# Altium schematic symbol library NOUMANPCBLIB.SchLib: 638 symbols (part 3 of 6)
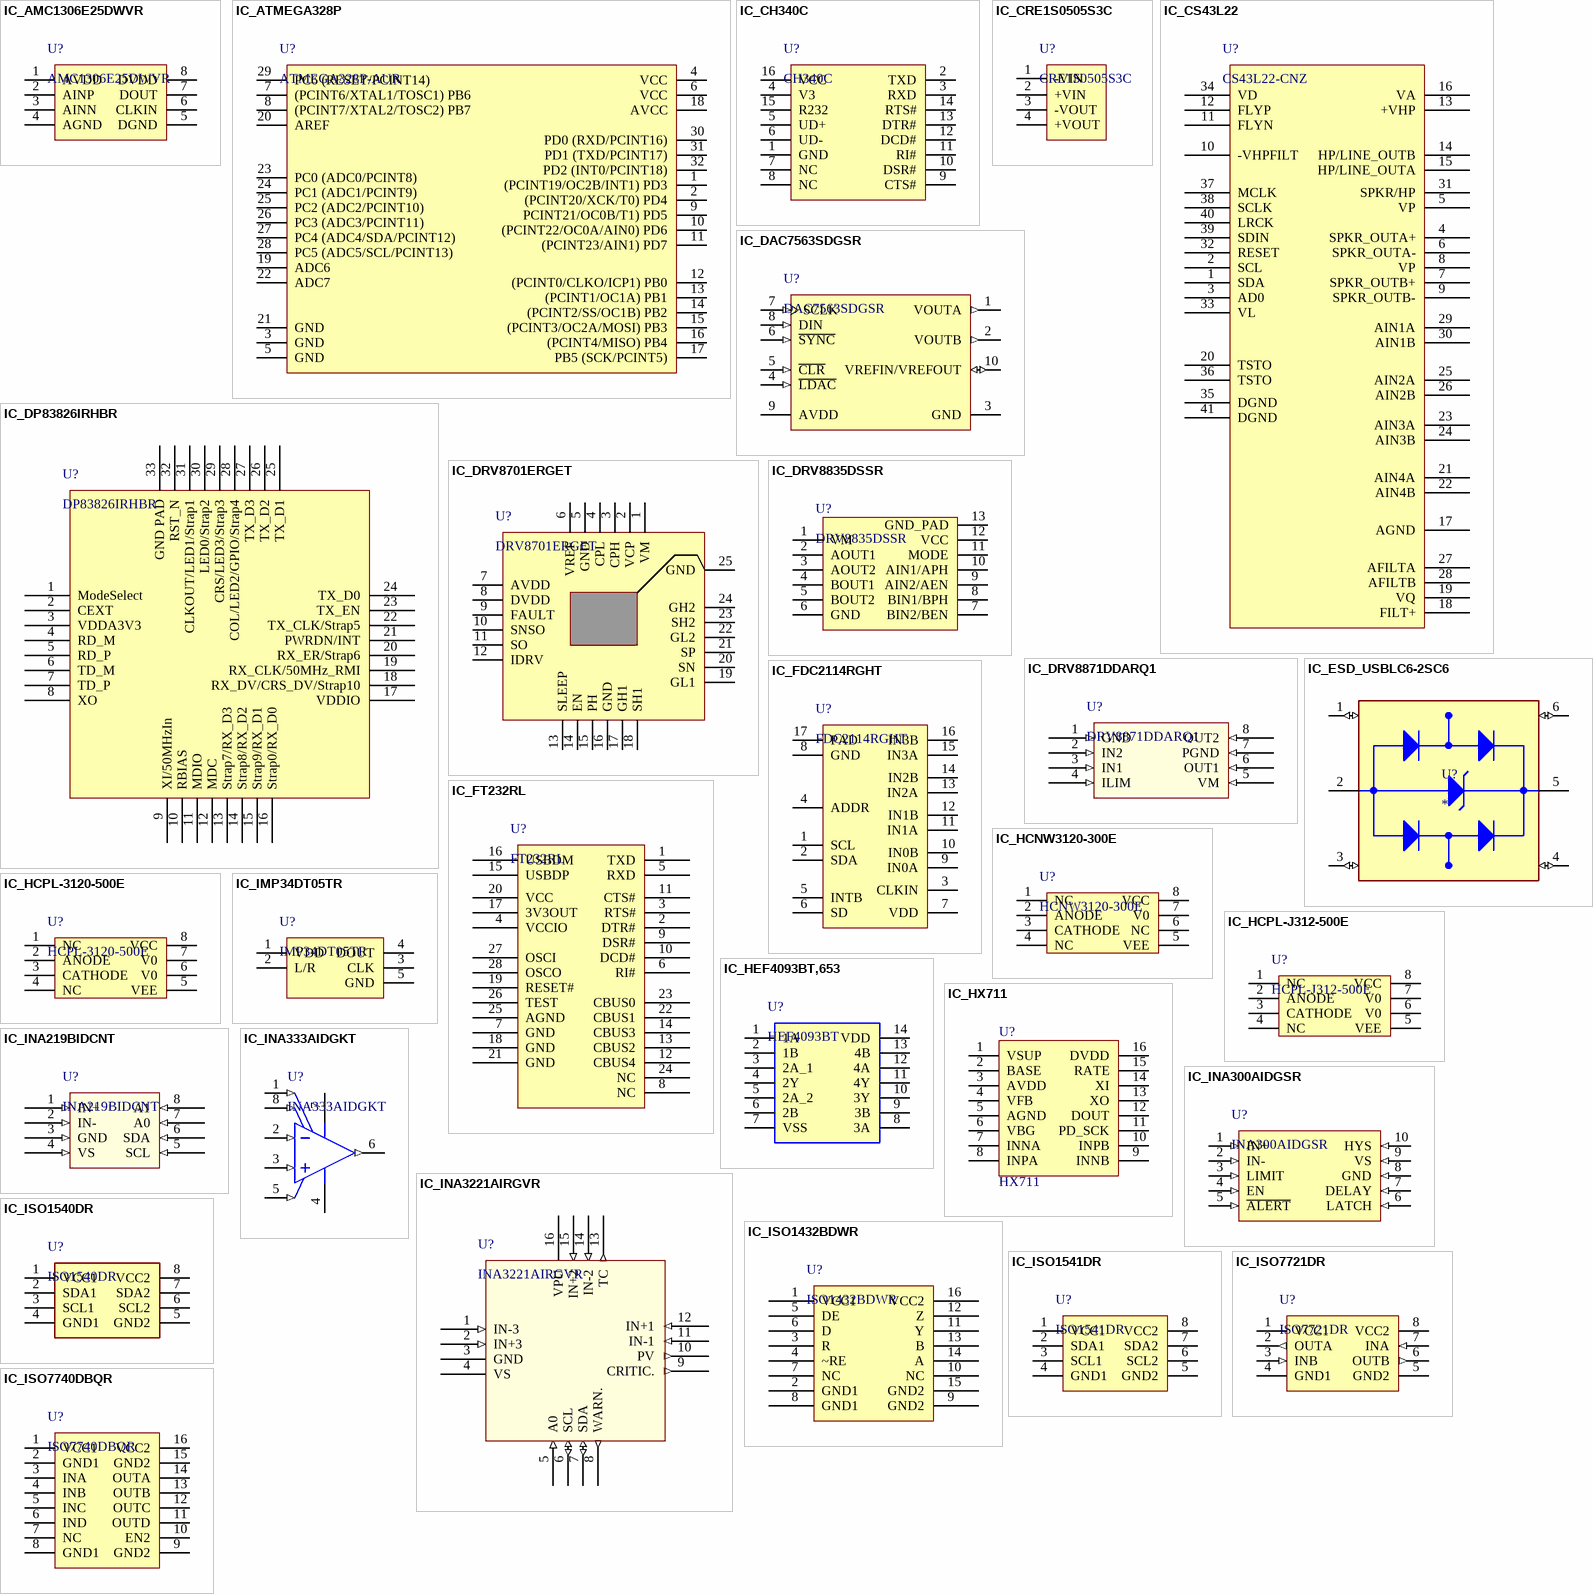
[diagram p20: symbols IC_AMC1306E25DWVR to IC_ISO7740DBQR]

## IC_CH340C
designator U?, comment CH340C
USB Bridge, USB to UART USB 2.0 UART Interface; Manufacturer: Olimex; Alternate Part Number-1: NA; Manufacturer Part Number: CH340C; Case/Package: SOIC16; Supplier-1: LCSC; Supplier Part Number-1: C84681
footprint SOIC16_50_284_25X90_SMT
pins: 1 GND, 2 TXD, 3 RXD, 4 V3, 5 UD+, 6 UD-, 7 NC, 8 NC, 9 CTS#, 10 DSR#, 11 RI#, 12 DCD#, 13 DTR#, 14 RTS#, 15 R232, 16 VCC

## IC_CRE1S0505S3C
designator U?, comment CRE1S0505S3C
Isolated Module DC DC Converter 1 Output 5V 200mA 4.5V - 5.5V Input; Manufacturer: Murata; Alternate Part Number-1: NA; Manufacturer Part Number: CRE1S0505S3C; Case/Package: SC-Package; Supplier-1: RS Components; Supplier Part Number-1: CRE1S0505S3C
footprint MOD_SC-PACKAGE_100_240_78X47_TH (SC PACK)
pins: 1 -VIN, 2 +VIN, 3 -VOUT, 4 +VOUT

## IC_CS43L22
designator U?, comment CS43L22-CNZ
Audio D/A Converter ICs Low Power Stereo DAC w/ClassD Spkr Driver; Manufacturer: Cirrus Logic; Alternate Part Number-1: NA; Manufacturer Part Number: CS43L22-CNZ; Case/Package: QFN-40; Supplier-1: Mouser; Supplier Part Number-1: 777-CS43L22-CNZ
footprint QFN40_19_284_33X9_SMD
pins: 1 SDA, 2 SCL, 3 AD0, 4 SPKR_OUTA+, 5 VP, 6 SPKR_OUTA-, 7 SPKR_OUTB+, 8 VP, 9 SPKR_OUTB-, 10 -VHPFILT, 11 FLYN, 12 FLYP, 13 +VHP, 14 HP/LINE_OUTB, 15 HP/LINE_OUTA, 16 VA, 17 AGND, 18 FILT+, 19 VQ, 20 TSTO, 21 AIN4A, 22 AIN4B, 23 AIN3A, 24 AIN3B, 25 AIN2A, 26 AIN2B, 27 AFILTA, 28 AFILTB, 29 AIN1A, 30 AIN1B, 31 SPKR/HP, 32 RESET, 33 VL, 34 VD, 35 DGND, 36 TSTO, 37 MCLK, 38 SCLK, 39 SDIN, 40 LRCK, 41 DGND

## IC_DAC7563SDGSR
designator U?, comment DAC7563SDGSR
12-Bit, Dual, Low Power, Ultra-Low Glitch, Buffered Voltage Output DAC with 2.5 V, 4 ppm/degC Reference, -40 to 125 degC, 10-pin SOP (DGS10), Green (RoHS & no Sb/Br); Manufacturer: Texas Instruments; Settling Time(us): 7; SubFamily: Precision DAC (=<10MSPS); DNL(Max)(+/-LSB): 0.25; DAC Channels: 2; INL(Max)(+/-LSB): 0.75; Power Consumption(Typ)(mW): 0.54; Resolution(Bits): 12; Interface: Serial SPI; Eco-Plan: Green (RoHS & no Sb/Br); PartNumber: DAC7563SDGSR; ComponentLink1Description: Manufacturer URL; ComponentLink2Description: Datasheet; DatasheetVersion: SLAS719D; ComponentLink3URL: http://www.ti.com/lit/ml/mpds035b/mpds035b.pdf; ComponentLink1URL: http://www.ti.com/; Code_JEDEC: MO-153; ComponentLink2URL: http://www.ti.com/general/docs/lit/getliterature.tsp?genericPartNumber=DAC7563&fileType=pdf; PackageReference: DGS10; ComponentLink3Description: Package Specification; PackageVersion: 4073272/C, 02/2004; Mounting Technology: Surface Mount; PackageDescription: 10-Pin Plastic Small Outline, Body 3 x 3 mm, Pitch 0.5 mm
footprint TI-DGS10_L (SOP, 10-Leads, Body 3x3mm, Pitch 0.5mm, IPC High Density)
pins: 1 VOUTA (out) "Analog output voltage from DAC-A", 2 VOUTB (out) "Analog output voltage from DAC-B", 3 GND (power) "Ground reference point for all circuitry on the device", 4 ~{LDAC} (in) "In synchronous mode, data are updated with the falling edge of the 24th SCLK cycle, which follows a falling edge of S\Y\N\C\. For such synchronous updates, the L\D\A\C\ pin is not required, and it must be connected to GND (See Datasheet)", 5 ~{CLR} (in) "Asynchronous clear input. The C\L\R\ input is falling-edge sensitive. When C\L\R\ is activated, zero scale (DACxx62) or mid-scale (DACxx63) is loaded to all input and DAC registers. This sets the DAC output voltages (See Datasheet)", 6 ~{SYNC} (in) "Level-triggered control input (active-low). This input is the frame synchronization signal for the input data. When S\Y\N\C\ goes low, it enables the input shift register, and data are sampled on subsequent falling clock (See Datasheet)", 7 SCLK (in) "Serial clock input. Data can be transferred at rates up to 50 MHz. Schmitt-trigger logic input", 8 DIN (in) "Serial data input. Data are clocked into the 24-bit input shift register on each falling edge of the serial clock input. Schmitt-trigger logic input", 9 AVDD (power) "Power-supply input, 2.7 V to 5.5 V", 10 VREFIN/VREFOUT (io) "Bidirectional voltage reference pin. If internal reference is used, 2.5-V output."

## IC_DP83826IRHBR
designator U?, comment DP83826IRHBR
Ethernet ICs Low latency 10/100-Mbps PHY, MII interface and enhanced mode with an industrial temperature range 32-VQFN -40 to 85; Manufacturer: Texas Instruments; Alternate Part Number-1: NA; Manufacturer Part Number: DP83826IRHBR; Case/Package: 32-VQFN; Supplier-1: Mouser; Supplier Part Number-1: 595-DP83826IRHBR
footprint VQFN32_19_218_23X9_SMD
pins: 1 ModeSelect, 2 CEXT, 3 VDDA3V3, 4 RD_M, 5 RD_P, 6 TD_M, 7 TD_P, 8 XO, 9 XI/50MHzIn, 10 RBIAS, 11 MDIO, 12 MDC, 13 Strap7/RX_D3, 14 Strap8/RX_D2, 15 Strap9/RX_D1, 16 Strap0/RX_D0, 17 VDDIO, 18 RX_DV/CRS_DV/Strap10, 19 RX_CLK/50MHz_RMI, 20 RX_ER/Strap6, 21 PWRDN/INT, 22 TX_CLK/Strap5, 23 TX_EN, 24 TX_D0, 25 TX_D1, 26 TX_D2, 27 TX_D3, 28 COL/LED2/GPIO/Strap4, 29 CRS/LED3/Strap3, 30 LED0/Strap2, 31 CLKOUT/LED1/Strap1, 32 RST_N, 33 GND PAD

## IC_DRV8701ERGET
designator U?, comment DRV8701ERGET
Motor Driver Power MOSFET Parallel 24-VQFN (4x4); Manufacturer: Texas Instruments; Alternate Part Number-1: NA; Manufacturer Part Number: DRV8701ERGET; Case/Package: VFQFN24; Supplier-1: ARROW; Supplier Part Number-1: DRV8701ERGET
footprint VFQFN24_19.6_196_12X32_SMD_1 (CASE: VQFN24)
pins: 1 VM, 2 VCP, 3 CPH, 4 CPL, 5 GND, 6 VREF, 7 AVDD, 8 DVDD, 9 FAULT, 10 SNSO, 11 SO, 12 IDRV, 13 SLEEP, 14 EN, 15 PH, 16 GND, 17 GH1, 18 SH1, 19 GL1, 20 SN, 21 SP, 22 GL2, 23 SH2, 24 GH2, 25 GND

## IC_DRV8835DSSR
designator U?, comment DRV8835DSSR
Bipolar Motor Driver Power MOSFET Parallel 12-WSON (3x2); Manufacturer: Texas Instruments; Alternate Part Number-1: NA; Manufacturer Part Number: DRV8835DSSR; Case/Package: WSON-12; Supplier-1: ARROW; Supplier Part Number-1: DRV8835DSSR
footprint WSON-12_19.6_125_27X11_SMD (CASE: WSON)
pins: 1 VM, 2 AOUT1, 3 AOUT2, 4 BOUT1, 5 BOUT2, 6 GND, 7 BIN2/BEN, 8 BIN1/BPH, 9 AIN2/AEN, 10 AIN1/APH, 11 MODE, 12 VCC, 13 GND_PAD

## IC_DRV8871DDARQ1
designator U?, comment DRV8871DDARQ1
Unipolar Motor Driver NMOS PWM 8-SO PowerPad; Manufacturer: Texas Instruments; Alternate Part Number-1: NA; Manufacturer Part Number: DRV8871DDARQ1; Case/Package: SOIC-8; Supplier-1: ARROW; Supplier Part Number-1: DRV8871DDARQ1
footprint SOIC8_50_328_25X90_SMT (SOIC)
pins: 1 GND (in), 2 IN2 (in), 3 IN1 (in), 4 ILIM (in), 5 VM (in), 6 OUT1 (in), 7 PGND (in), 8 OUT2 (in)

## IC_ESD_USBLC6-2SC6
designator U?
17V Clamp 5A (8/20Âµs) Ipp Tvs Diode Surface Mount SOT-23-6; MF: STMicroelectronics; MP: USBLC6-2SC6; Value: *; SnapEDA_Link: https://www.snapeda.com/parts/USBLC6-2SC6/STMicroelectronics/view-part/?ref=snap; Check_prices: https://www.snapeda.com/parts/USBLC6-2SC6/STMicroelectronics/view-part/?ref=eda; Purchase-URL: https://pricing.snapeda.com/search/part/USBLC6-2SC6/?ref=eda; Price: None; Availability: In Stock; Package: SOT-23-6 STMicroelectronics
footprint USB-ESD-SOT95P280X145-6N
pins: 1 I/O1_IN (io), 2 GND (power), 3 I/O2_IN (io), 4 I/O2_OUT (io), 5 VBUS (power), 6 I/O1_OUT (io)

## IC_FDC2114RGHT
designator U?, comment FDC2114RGHT
Capacitive Touch Proximity Only 16-WQFN (4x4); Manufacturer: Texas Instruments; Alternate Part Number-1: NA; Manufacturer Part Number: FDC2114RGHT; Case/Package: WFQFN16; Supplier-1: CATLOG COMPONENTS; Supplier Part Number-1: FDC2114RGHT
footprint WFQFN-16_19_150_31x11_SMD (WFQFN)
pins: 1 SCL, 2 SDA, 3 CLKIN, 4 ADDR, 5 INTB, 6 SD, 7 VDD, 8 GND, 9 IN0A, 10 IN0B, 11 IN1A, 12 IN1B, 13 IN2A, 14 IN2B, 15 IN3A, 16 IN3B, 17 PAD

## IC_FT232RL
designator U?, comment FT232RL
USB Bridge, USB to UART USB 2.0 UART Interface 28-SSOP; Manufacturer: FTDI; Alternate Part Number-1: NA; Manufacturer Part Number: FT232RL; Case/Package: TSSOP28; Supplier-1: Aliepress; Supplier Part Number-1: FT232RL
footprint TSSOP28_25.5_295_15X58_SMD (CASE: TSSOP)
pins: 1 TXD, 2 DTR#, 3 RTS#, 4 VCCIO, 5 RXD, 6 RI#, 7 GND, 8 NC, 9 DSR#, 10 DCD#, 11 CTS#, 12 CBUS4, 13 CBUS2, 14 CBUS3, 15 USBDP, 16 USBDM, 17 3V3OUT, 18 GND, 19 RESET#, 20 VCC, 21 GND, 22 CBUS1, 23 CBUS0, 24 NC, 25 AGND, 26 TEST, 27 OSCI, 28 OSCO

## IC_HCNW3120-300E
designator U?, comment HCNW3120-300E
2.5A Gate Driver Optical Coupling 5000Vrms 1 Channel 8-DIP Gull Wing; Manufacturer: Broadcom Avago; Alternate Part Number-1: NA; Manufacturer Part Number: HCNW3120-300E; Case/Package: SOIC8; Supplier-1: MOUSER; Supplier Part Number-1: HCNW3120-300E
footprint SOIC8_50_328_25X90_SMT (SOIC)
pins: 1 NC, 2 ANODE, 3 CATHODE, 4 NC, 5 VEE, 6 NC, 7 V0, 8 VCC

## IC_HCPL-3120-500E
designator U?, comment HCPL-3120-500E
2.5A Gate Driver Optical Coupling 3750Vrms 1 Channel 8-DIP Gull Wing; Manufacturer: Broadcom Avago; Alternate Part Number-1: NA; Manufacturer Part Number: HCPL-3120-500E; Case/Package: SOIC8; Supplier-1: MOUSER; Supplier Part Number-1: HCPL-3120-500E
footprint SOIC8_50_328_25X90_SMT (SOIC)
pins: 1 NC, 2 ANODE, 3 CATHODE, 4 NC, 5 VEE, 6 V0, 7 V0, 8 VCC

## IC_HCPL-J312-500E
designator U?, comment HCPL-J312-500E
2.5A Gate Driver Optical Coupling 3750Vrms 1 Channel 8-DIP Gull Wing; Manufacturer: Broadcom Avago; Alternate Part Number-1: NA; Manufacturer Part Number: HCPL-J312-500E; Case/Package: SOIC8; Supplier-1: MOUSER; Supplier Part Number-1: HCPL-J312-500E
footprint SOIC8_50_328_25X90_SMT (SOIC)
pins: 1 NC, 2 ANODE, 3 CATHODE, 4 NC, 5 VEE, 6 V0, 7 V0, 8 VCC

## IC_HEF4093BT,653
designator U?, comment HEF4093BT
NAND Gate IC 4 Channel Schmitt Trigger 14-SO; Manufacturer: Nexperia; Manufacturer Part Number: HEF4093BT,653; Alternate Part Number-1: NA; Case/Package: SSOP14; Supplier-1: MOUSER; Supplier Part Number-1: HEF4093BT,653
footprint SOIC14_50_285_80X25_SMT (SOIC, 14-Leads, Body 8.56x3.90mm, Pitch 1.27mm, IPC Medium Density)
pins: 1 1A, 2 1B, 3 2A_1, 4 2Y, 5 2A_2, 6 2B, 7 VSS, 8 3A, 9 3B, 10 3Y, 11 4Y, 12 4A, 13 4B, 14 VDD

## IC_HX711
designator U?, comment HX711
24-Bit Analog-to-Digital Converter (ADC) for Weigh Scales; Manufacturer Part Number: HX711 - SOIC16; Manufacturer: AVIA Semiconductor; Alternate Part Number-1: NA; Case/Package: SOIC16; Supplier-1: MOUSER; Supplier Part Number-1: HX711 - SOIC16
footprint SOIC16_50_284_25X90_SMT
pins: 1 VSUP, 2 BASE, 3 AVDD, 4 VFB, 5 AGND, 6 VBG, 7 INNA, 8 INPA, 9 INNB, 10 INPB, 11 PD_SCK, 12 DOUT, 13 XO, 14 XI, 15 RATE, 16 DVDD

## IC_IMP34DT05TR
designator U?, comment IMP34DT05TR
MEMS Microphones AUTO & INDUSTRIAL SENSORS; Manufacturer: STMicroelectronics; Alternate Part Number-1: NA; Manufacturer Part Number: IMP34DT05TR; Case/Package: HCLGA-4; Supplier-1: Mouser; Supplier Part Number-1: 511-IMP34DT05TR
footprint HCLGA-4_53_137_15X37_SMD
pins: 1 VDD, 2 L/R, 3 CLK, 4 DOUT, 5 GND

## IC_INA219BIDCNT
designator U?, comment INA219BIDCNT
Current Monitor Regulator High-Side 10mA SOT-23-8; Manufacturer: Texas Instruments; Alternate Part Number-1: NA; Manufacturer Part Number: INA219BIDCNT; Case/Package: SOT-23-8; Supplier-1: Mouser; Supplier Part Number-1: 595-INA219BIDR
footprint SOT23-8 (Case-SOT)
pins: 1 IN+ (in), 2 IN- (in), 3 GND (in), 4 VS (in), 5 SCL (in), 6 SDA (in), 7 A0 (in), 8 A1 (in)

## IC_INA300AIDGSR
designator U?, comment INA300AIDGSR
Current Sense Regulator High/Low-Side 10-VSSOP; Manufacturer: Texas Instruments; Alternate Part Number-1: NA; Manufacturer Part Number: INA300AIDGSR; Case/Package: SSOP10; Supplier-1: ARROW; Supplier Part Number-1: INA300AIDGSR
footprint SSOP10_19_236_55X11_SMD
pins: 1 IN+ (in), 2 IN- (in), 3 LIMIT (in), 4 EN (in), 5 ~{ALERT} (in), 6 LATCH (in), 7 DELAY (in), 8 GND (in), 9 VS (in), 10 HYS (in)

## IC_INA333AIDGKT
designator U?, comment INA333AIDGKT
Instrumentation Amplifier 1 Circuit Rail-to-Rail 8-VSSOP; Manufacturer: Texas Instruments; Alternate Part Number-1: NA; Manufacturer Part Number: INA333AIDGKT; Case/Package: SOIC8; Supplier-1: Mouser; Supplier Part Number-1: 595-INA333AIDGKT
footprint SOIC8_50_328_25X90_SMT (SOIC)
pins: 1 RG (in), 2 VIN- (in), 3 VIN+ (in), 4 V- (power), 5 REF (in), 6 VOUT (out), 7 V+ (power), 8 RG (in)

## IC_INA3221AIRGVR
designator U?, comment INA3221AIRGVR
Current/Voltage Monitor Regulator High-Side 16-VQFN (4x4); Manufacturer: Texas Instruments; Alternate Part Number-1: NA; Manufacturer Part Number: INA3221AIRGVR; Case/Package: VQFN16; Supplier-1: ARROW; Supplier Part Number-1: INA3221AIRGVR
footprint VQFN16_27_311_19X94_SMD (PQFN, 16-Leads, Body 4.00x4.00mm, Pitch 0.65mm, Thermal Pad 2.05x2.05mm)
pins: 1 IN-3 (in), 2 IN+3 (in), 3 GND (power), 4 VS (power), 5 A0 (in), 6 SCL (io), 7 SDA (io), 8 WARN. (out), 9 CRITIC. (out), 10 PV (out), 11 IN-1 (in), 12 IN+1 (in), 13 TC (out), 14 IN-2 (in), 15 IN+2 (in), 16 VPU (power)

## IC_ISO1432BDWR
designator U?, comment ISO1432BDWR
1/1 Transceiver, Isolated Full RS422, RS485 16-SOIC; Manufacturer: Texas Instruments; Alternate Part Number-1: NA; Manufacturer Part Number: ISO1432BDWR; Case/Package: SOICW16; Supplier-1: Mouser; Supplier Part Number-1: 595-ISO1432BDWR
footprint SOICW16_50_440_25X76_SMT (SOICW)
pins: 1 VCC1, 2 GND1, 3 R, 4 ~RE, 5 DE, 6 D, 7 NC, 8 GND1, 9 GND2, 10 NC, 11 Y, 12 Z, 13 B, 14 A, 15 GND2, 16 VCC2

## IC_ISO1540DR
designator U?, comment ISO1540DR
I²C Digital Isolator 2500Vrms 2 Channel 1Mbps 25kV/µs CMTI 8-SOIC (0.154", 3.90mm Width); Manufacturer: Texas Instruments; Alternate Part Number-1: NA; Manufacturer Part Number: ISO1540DR; Case/Package: SOIC8; Supplier-1: Mouser; Supplier Part Number-1: 595-ISO1540DR
footprint SOIC8_50_328_25X90_SMT (SOIC)
pins: 1 VCC1, 2 SDA1, 3 SCL1, 4 GND1, 5 GND2, 6 SCL2, 7 SDA2, 8 VCC2

## IC_ISO1541DR
designator U?, comment ISO1541DR
I²C Digital Isolator 2500Vrms 2 Channel 1Mbps 25kV/µs CMTI 8-SOIC (0.154", 3.90mm Width); Manufacturer: Texas Instruments; Alternate Part Number-1: NA; Manufacturer Part Number: ISO1541DR; Case/Package: SOIC8; Supplier-1: Mouser; Supplier Part Number-1: 595-ISO1541DR
footprint SOIC8_50_328_25X90_SMT (SOIC)
pins: 1 VCC1, 2 SDA1, 3 SCL1, 4 GND1, 5 GND2, 6 SCL2, 7 SDA2, 8 VCC2

## IC_ISO7721DR
designator U?, comment ISO7721DR
General Purpose Digital Isolator 3000Vrms 2 Channel 100Mbps 85kV/µs CMTI 8-SOIC (0.154", 3.90mm Width); Manufacturer: Texas Instruments; Alternate Part Number-1: NA; Manufacturer Part Number: ISO7721DR; Case/Package: SOIC8; Supplier-1: ARROW; Supplier Part Number-1: ISO7721DR
footprint SOIC8_50_328_25X90_SMT (SOIC)
pins: 1 VCC1 (power), 2 OUTA (out), 3 INB (in), 4 GND1 (power), 5 GND2 (power), 6 OUTB (out), 7 INA (in), 8 VCC2 (power)

## IC_ISO7740DBQR
designator U?, comment ISO7740DBQR
General Purpose Digital Isolator 3000Vrms 4 Channel 100Mbps 85kV/µs CMTI 16-SSOP (0.154", 3.90mm Width); Manufacturer: Texas Instruments; Alternate Part Number-1: NA; Manufacturer Part Number: ISO7740DBQR; Case/Package: SSOP-16; Supplier-1: Arrow; Supplier Part Number-1: ISO7740FQDBQQ1
footprint SSOP16_23.6_298_58X17_SMD (CASE: SSOP)
pins: 1 VCC1, 2 GND1, 3 INA, 4 INB, 5 INC, 6 IND, 7 NC, 8 GND1, 9 GND2, 10 EN2, 11 OUTD, 12 OUTC, 13 OUTB, 14 OUTA, 15 GND2, 16 VCC2

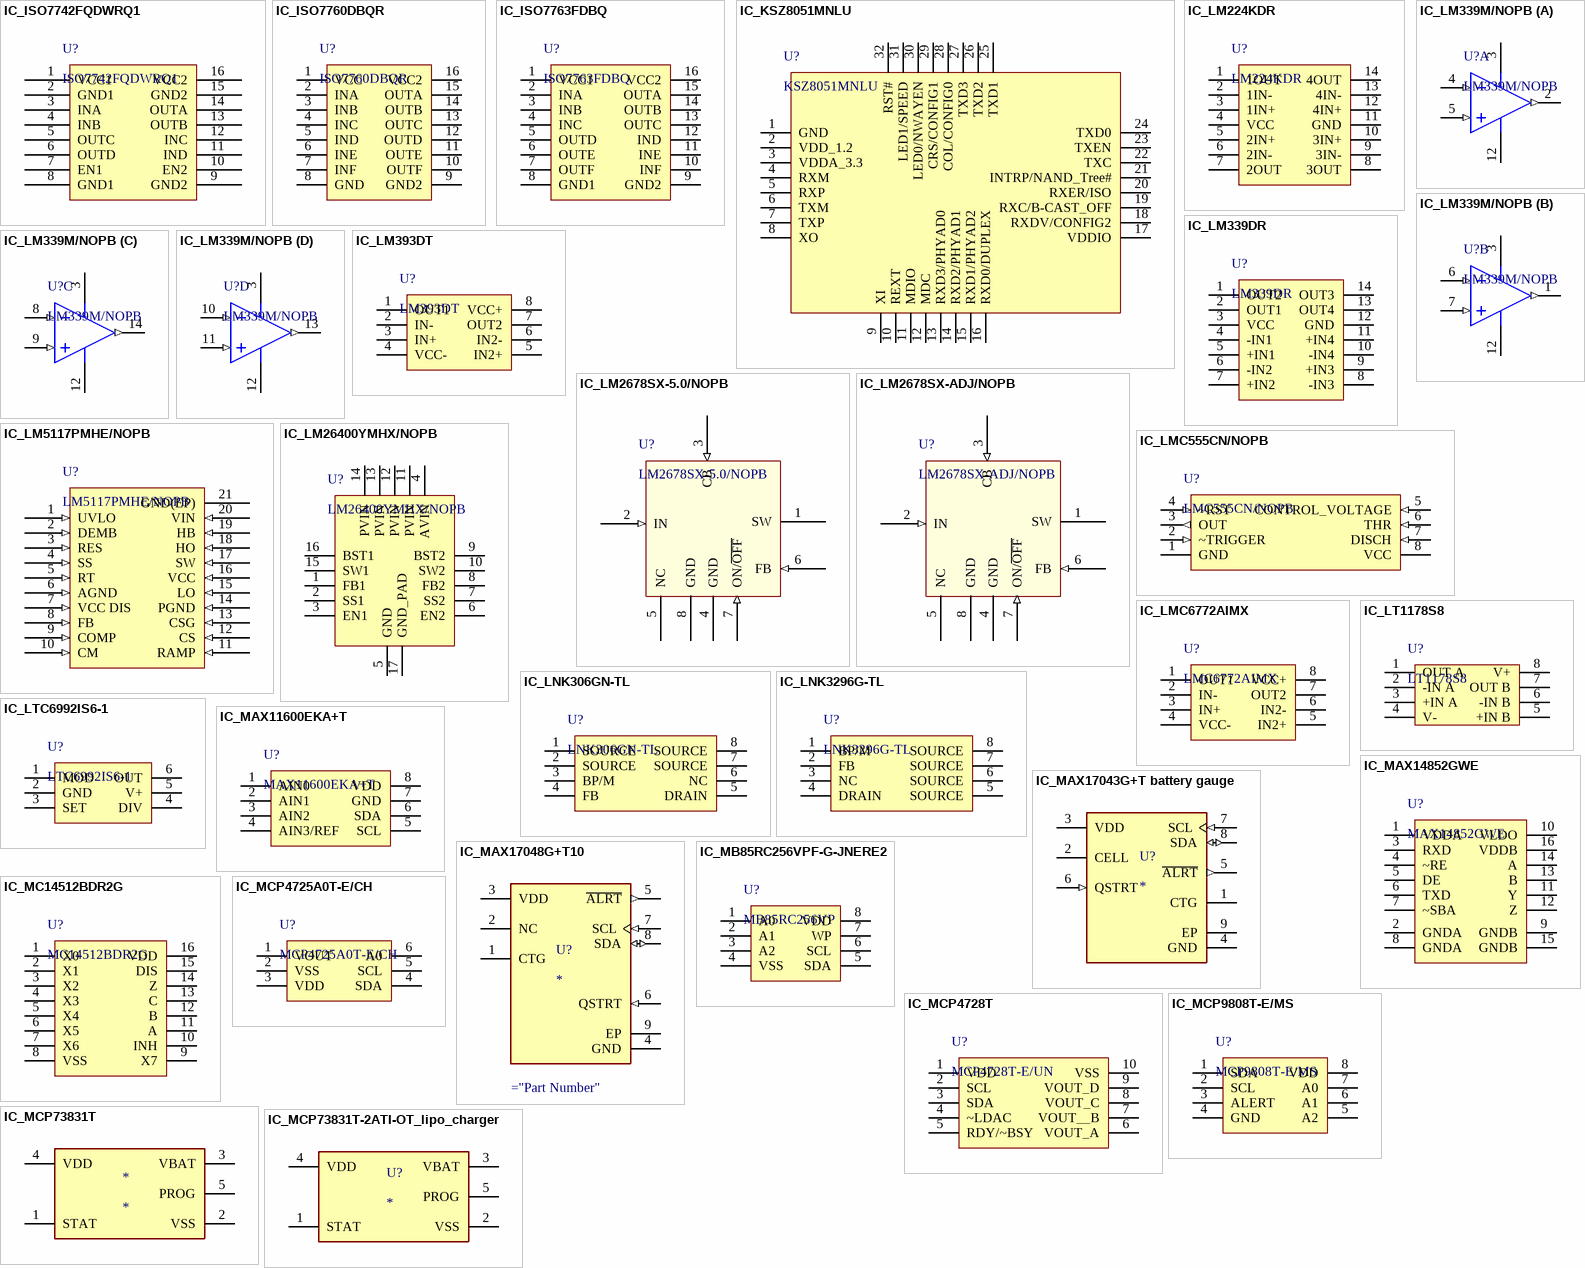
[diagram p8: symbols IC_ISO7742FQDWRQ1 to IC_MCP73831T-2ATI-OT_lipo_charger]

## IC_ISO7742FQDWRQ1
designator U?, comment ISO7742FQDWRQ1
General Purpose Digital Isolator 5000Vrms 4 Channel 100Mbps 40kV/µs CMTI 16-SOIC (0.295", 7.50mm Width); Manufacturer: Texas Instruments; Alternate Part Number-1: NA; Manufacturer Part Number: ISO7742FQDWRQ1; Case/Package: SOICW16; Supplier-1: ARROW; Supplier Part Number-1: ISO7742FQDWRQ1
footprint SOICW16_50_440_25X76_SMT (SOICW)
pins: 1 VCC1, 2 GND1, 3 INA, 4 INB, 5 OUTC, 6 OUTD, 7 EN1, 8 GND1, 9 GND2, 10 EN2, 11 IND, 12 INC, 13 OUTB, 14 OUTA, 15 GND2, 16 VCC2

## IC_ISO7760DBQR
designator U?, comment ISO7760DBQR
General Purpose Digital Isolator 3000Vrms 6 Channel 100Mbps 85kV/µs CMTI 16-SSOP (0.154", 3.90mm Width); Manufacturer: Texas Instruments; Alternate Part Number-1: NA; Manufacturer Part Number: ISO7760DBQR; Case/Package: SOIC16; Supplier-1: ARROW; Supplier Part Number-1: ISO7760DBQR
footprint SOIC16_50_284_25X90_SMT
pins: 1 VCC, 2 INA, 3 INB, 4 INC, 5 IND, 6 INE, 7 INF, 8 GND, 9 GND2, 10 OUTF, 11 OUTE, 12 OUTD, 13 OUTC, 14 OUTB, 15 OUTA, 16 VCC2

## IC_ISO7763FDBQ
designator U?, comment ISO7763FDBQ
General Purpose Digital Isolator 3000Vrms 6 Channel 100Mbps 85kV/µs CMTI 16-SSOP (0.154", 3.90mm Width); Manufacturer: Texas Instruments; Alternate Part Number-1: NA; Manufacturer Part Number: ISO7763FDBQ; Case/Package: SSOP16; Supplier-1: ARROW; Supplier Part Number-1: ISO7763FDBQ
footprint SSOP16_23.6_298_58X17_SMD (CASE: SSOP)
pins: 1 VCC1, 2 INA, 3 INB, 4 INC, 5 OUTD, 6 OUTE, 7 OUTF, 8 GND1, 9 GND2, 10 INF, 11 INE, 12 IND, 13 OUTC, 14 OUTB, 15 OUTA, 16 VCC2

## IC_KSZ8051MNLU
designator U?, comment KSZ8051MNLU
1/1 Transceiver Full MII 32-QFN (5x5); Manufacturer: Microchip Technology; Alternate Part Number-1: NA; Manufacturer Part Number: KSZ8051MNLU; Case/Package: 32-QFN (5x5); Supplier-1: Digikey; Supplier Part Number-1: KSZ8051MNLU-TR-ND
footprint QFN32_19_193_12X32_SMD (QFN Package)
pins: 1 GND, 2 VDD_1.2, 3 VDDA_3.3, 4 RXM, 5 RXP, 6 TXM, 7 TXP, 8 XO, 9 XI, 10 REXT, 11 MDIO, 12 MDC, 13 RXD3/PHYAD0, 14 RXD2/PHYAD1, 15 RXD1/PHYAD2, 16 RXD0/DUPLEX, 17 VDDIO, 18 RXDV/CONFIG2, 19 RXC/B-CAST_OFF, 20 RXER/ISO, 21 INTRP/NAND_Tree#, 22 TXC, 23 TXEN, 24 TXD0, 25 TXD1, 26 TXD2, 27 TXD3, 28 COL/CONFIG0, 29 CRS/CONFIG1, 30 LED0/NWAYEN, 31 LED1/SPEED, 32 RST#

## IC_LM224KDR
designator U?, comment LM224KDR
General Purpose Amplifier 4 Circuit 14-SOIC; Manufacturer: Texas Instruments; Alternate Part Number-1: NA; Manufacturer Part Number: LM224KDR; Case/Package: SOIC14; Supplier-1: RS COMPONENTS; Supplier Part Number-1: LM224KDR
footprint SOIC14_50_285_80X25_SMT (SOIC, 14-Leads, Body 8.56x3.90mm, Pitch 1.27mm, IPC Medium Density)
pins: 1 1OUT, 2 1IN-, 3 1IN+, 4 VCC, 5 2IN+, 6 2IN-, 7 2OUT, 8 3OUT, 9 3IN-, 10 3IN+, 11 GND, 12 4IN+, 13 4IN-, 14 4OUT

## IC_LM339DR
designator U?, comment LM339DR
Comparator Differential CMOS, MOS, Open-Collector, TTL 14-SOIC; Manufacturer: TI National Semiconductor; Alternate Part Number-1: LM339NSR; Manufacturer Part Number: LM339DR; Case/Package: TSSOP14; Supplier-1: LCSC; Supplier Part Number-1: C7948
footprint TSSOP14_25.6_296_15X55_SMD (CASE: TSSOP)
pins: 1 OUT2, 2 OUT1, 3 VCC, 4 -IN1, 5 +IN1, 6 -IN2, 7 +IN2, 8 -IN3, 9 +IN3, 10 -IN4, 11 +IN4, 12 GND, 13 OUT4, 14 OUT3

## IC_LM339M/NOPB
designator U?, comment LM339M/NOPB
Comparator General Purpose CMOS, DTL, ECL, MOS, Open-Collector, TTL 14-SOIC; Manufacturer: TI National Semiconductor; Alternate Part Number-1: NA; Manufacturer Part Number: LM339M/NOPB; Case/Package: SOIC14; Supplier-1: RS COMP; Supplier Part Number-1: LM339M/NOPB
footprint SOIC14_50_285_80X25_SMT (SOIC, 14-Leads, Body 8.56x3.90mm, Pitch 1.27mm, IPC Medium Density)
part A pins: 2 OUT1 (out), 3 V+ (power), 4 IN1- (in), 5 IN1+ (in), 12 GND (power)
part B pins: 1 OUT2 (out), 3 V+ (power), 6 IN2- (in), 7 IN2+ (in), 12 GND (power)
part C pins: 3 V+ (power), 8 IN3- (in), 9 IN3+ (in), 12 GND (power), 14 OUT3 (out)
part D pins: 3 V+ (power), 10 IN4- (in), 11 IN4+ (in), 12 GND (power), 13 OUT4 (out)

## IC_LM393DT
designator U?, comment LM393DT
Comparator General Purpose CMOS, DTL, ECL, MOS, Open-Collector, TTL 8-SO; Manufacturer: Texas Instruments; Alternate Part Number-1: NA; Manufacturer Part Number: LM393DT; Case/Package: SOIC8; Supplier-1: ARROW; Supplier Part Number-1: LM393DT
footprint SOIC8_50_328_25X90_SMT (SOIC)
pins: 1 OUT1, 2 IN-, 3 IN+, 4 VCC-, 5 IN2+, 6 IN2-, 7 OUT2, 8 VCC+

## IC_LM2678SX-5.0/NOPB
designator U?, comment LM2678SX-5.0/NOPB
Buck Switching Regulator IC Positive Fixed 5V 1 Output 5A TO-263-8, D²Pak (7 Leads + Tab), TO-263CA; Manufacturer: TI National Semiconductor; Alternate Part Number-1: LM2678SX-ADJ/NOPB; Manufacturer Part Number: LM2678SX-5.0/NOPB; Case/Package: TO-263-7; Supplier-1: MOUSER; Supplier Part Number-1: LM2678SX-5.0/NOPB
footprint TO-263-7_SMD (CASE: TO-263)
pins: 1 SW (power), 2 IN (in), 3 CB (in), 4 GND (power), 5 NC, 6 FB (in), 7 ON/~{OFF} (in), 8 GND (power)

## IC_LM2678SX-ADJ/NOPB
designator U?, comment LM2678SX-ADJ/NOPB
Buck Switching Regulator IC Positive Adjustable 1.21V 1 Output 5A TO-263-8, D²Pak (7 Leads + Tab), TO-263CA; Manufacturer: Texas Instruments; Alternate Part Number-1: NA; Manufacturer Part Number: LM2678SX-ADJ/NOPB; Case/Package: TO-263-8; Supplier-1: LCSC; Supplier Part Number-1: C40844
footprint TO-263-7_SMD (CASE: TO-263)
pins: 1 SW (power), 2 IN (in), 3 CB (in), 4 GND (power), 5 NC, 6 FB (in), 7 ON/~{OFF} (in), 8 GND (power)

## IC_LM5117PMHE/NOPB
designator U?, comment LM5117PMHE/NOPB
Buck Regulator Positive Output Step-Down DC-DC Controller IC 20-HTSSOP; Manufacturer: STMicroelectronics; Alternate Part Number-1: NA; Manufacturer Part Number: LM5117PMHE/NOPB; Case/Package: SSOP20; Supplier-1: LCSC; Supplier Part Number-1: C390088
footprint SSOP20_25.5_354_70X18_SMD (CASE: SSOP)
pins: 1 UVLO (in), 2 DEMB (in), 3 RES (in), 4 SS (in), 5 RT (in), 6 AGND (in), 7 VCC DIS (in), 8 FB (in), 9 COMP (in), 10 CM (in), 11 RAMP (in), 12 CS (in), 13 CSG (in), 14 PGND (in), 15 LO (in), 16 VCC (in), 17 SW (in), 18 HO (in), 19 HB (in), 20 VIN (in), 21 GND(EP)

## IC_LM26400YMHX/NOPB
designator U?, comment LM26400YMHX/NOPB
Buck Switching Regulator IC Positive Adjustable 0.6V 2 Output 2A 16-PowerTSSOP (0.173", 4.40mm Width); Manufacturer: TI National Semiconductor; Alternate Part Number-1: NA; Manufacturer Part Number: LM26400YMHX/NOPB; Case/Package: HTSSOP 16; Supplier-1: ARROW; Supplier Part Number-1: LM26400YMHX/NOPB
footprint HTSSOP-16_26_307_59X17_SMD (16-PowerTSSOP)
pins: 1 FB1, 2 SS1, 3 EN1, 4 AVIN, 5 GND, 6 EN2, 7 SS2, 8 FB2, 9 BST2, 10 SW2, 11 PVIN, 12 PVIN, 13 PVIN, 14 PVIN, 15 SW1, 16 BST1, 17 GND_PAD

## IC_LMC555CN/NOPB
designator U?, comment LMC555CN/NOPB
555 Type, Timer/Oscillator (Single) IC 3MHz 8-PDIP; Manufacturer: Texas Instruments; Alternate Part Number-1: NE555N; Manufacturer Part Number: LMC555CN/NOPB; Case/Package: 8-PDIP; Supplier-1: Digikey; Supplier Part Number-1: LMC555CN/NOPB-ND
footprint PDIP-8_100_393_66X66_TH (DIP-8 Package)
pins: 1 GND, 2 ~TRIGGER (in), 3 OUT (out), 4 ~RST (in), 5 CONTROL_VOLTAGE (in), 6 THR (in), 7 DISCH (in), 8 VCC (power)

## IC_LMC6772AIMX
designator U?, comment LMC6772AIMX
Comparator General Purpose Open Drain 8-SOIC; Manufacturer: TI National Semiconductor; Manufacturer Part Number: LMC6772AIMX/NOPB; Alternate Part Number-1: NA; Case/Package: SOIC8; Supplier-1: ARROW; Supplier Part Number-1: LMC6772AIMX/NOPB
footprint SOIC8_50_328_25X90_SMT (SOIC)
pins: 1 OUT1, 2 IN-, 3 IN+, 4 VCC-, 5 IN2+, 6 IN2-, 7 OUT2, 8 VCC+

## IC_LNK306GN-TL
designator U?, comment LNK306GN-TL
Converter Offline Buck, Buck-Boost, Flyback Topology 66kHz SMD-8B; Manufacturer: Power Integrations; Alternate Part Number-1: NA; Manufacturer Part Number: LNK306GN-TL; Case/Package: SMD8B; Supplier-1: Mouser; Supplier Part Number-1: 869-LNK306GN-TL
footprint SMD8B_86_430_45X80_SMD (SMD-8B)
pins: 1 SOURCE, 2 SOURCE, 3 BP/M, 4 FB, 5 DRAIN, 6 NC, 7 SOURCE, 8 SOURCE

## IC_LNK3296G-TL
designator U?, comment LNK3296G-TL
Converter Offline Buck, Buck-Boost, Flyback Topology 66kHz SMD-8C; Manufacturer: Power Integrations; Alternate Part Number-1: NA; Manufacturer Part Number: LNK3296G-TL; Case/Package: SMD-8B; Supplier-1: Mouser; Supplier Part Number-1: 869-LNK3296G-TL
footprint SMD8B_86_430_45X80_SMD (SMD-8B)
pins: 1 BP/M, 2 FB, 3 NC, 4 DRAIN, 5 SOURCE, 6 SOURCE, 7 SOURCE, 8 SOURCE

## IC_LT1178S8
designator U?, comment LT1178S8
General Purpose Amplifier 2 Circuit 8-SO; Manufacturer: Analog Devices / Linear Technology; Manufacturer Part Number: LT1178S8#PBF; Alternate Part Number-1: NA; Case/Package: SOIC8; Supplier-1: ARROW; Supplier Part Number-1: LT1178S8#PBF
footprint SOIC8_50_328_25X90_SMT (SOIC)
pins: 1 OUT A, 2 -IN A, 3 +IN A, 4 V-, 5 +IN B, 6 -IN B, 7 OUT B, 8 V+

## IC_LTC6992IS6-1
designator U?, comment LTC6992IS6-1
Oscillator, Silicon IC 3.81Hz ~ 1MHz TSOT-23-6; Manufacturer: Linear Technology/Analog Devices; Alternate Part Number-1: NA; Manufacturer Part Number: LTC6992IS6-1; Case/Package: SOT-23-6; Supplier-1: Arrow; Supplier Part Number-1: LTC6992IS6-1#TRMPBF
footprint SOT23-6 (CASE: SOT)
pins: 1 MOD, 2 GND, 3 SET, 4 DIV, 5 V+, 6 OUT

## IC_MAX11600EKA+T
designator U?, comment MAX11600EKA+T
Analog to Digital Converters - ADC 2.7V to 3.6V and 4.5V to 5.5V, Low-Power, 4-/8-/12-Channel, 2-Wire Serial 8-Bit ADCs; Manufacturer: Maxim Integrated; Alternate Part Number-1: NA; Manufacturer Part Number: MAX11600EKA+T; Case/Package: SOT-23-8; Supplier-1: Mouser; Supplier Part Number-1: 700-MAX11600EKAT
footprint SOT23-8 (Case-SOT)
pins: 1 AIN0, 2 AIN1, 3 AIN2, 4 AIN3/REF, 5 SCL, 6 SDA, 7 GND, 8 VDD

## IC_MAX14852GWE
designator U?, comment MAX14852GWE
1/1 Transceiver Full RS422, RS485 16-SOIC; Manufacturer: Maxim; Manufacturer Part Number: MAX14852GWE+T; Alternate Part Number-1: NA; Case/Package: SOICW16; Supplier-1: Mouser; Supplier Part Number-1: 700-MAX14852GWE+T
footprint SOICW16_50_440_25X76_SMT (SOICW)
pins: 1 VDDA, 2 GNDA, 3 RXD, 4 ~RE, 5 DE, 6 TXD, 7 ~SBA, 8 GNDA, 9 GNDB, 10 VLDO, 11 Y, 12 Z, 13 B, 14 A, 15 GNDB, 16 VDDB

## IC_MAX17043G+T battery gauge
designator U?
footprint MAX17043g+T
pins: 1 CTG (power), 2 CELL, 3 VDD (power), 4 GND (power), 5 ~{ALRT} (out), 6 QSTRT (in), 7 SCL (in), 8 SDA (io), 9 EP (power)

## IC_MAX17048G+T10
designator U?
footprint IC_MAX17048G+T10
pins: 1 CTG (power), 2 NC, 3 VDD (power), 4 GND (power), 5 ~{ALRT} (out), 6 QSTRT (in), 7 SCL (in), 8 SDA (io), 9 EP (power)

## IC_MB85RC256VPF-G-JNERE2
designator U?, comment MB85RC256VP
FRAM (Ferroelectric RAM) Memory IC 256Kb (32K x 8) I²C 1MHz 550ns 8-SOP; Manufacturer: Fujitsu; Manufacturer Part Number: MB85RC256VPF-G-JNERE2; Alternate Part Number-1: NA; Case/Package: SOIC8; Supplier-1: LCSC; Supplier Part Number-1: C126728
footprint SOIC8_50_328_25X90_SMT (SOIC)
pins: 1 A0, 2 A1, 3 A2, 4 VSS, 5 SDA, 6 SCL, 7 WP, 8 VDD

## IC_MC14512BDR2G
designator U?, comment MC14512BDR2G
Data Selector/Multiplexer 1 x 8:1 16-SOIC; Manufacturer: ON Semiconductor; Alternate Part Number-1: NA; Manufacturer Part Number: MC14512BDR2G; Case/Package: SOIC16; Supplier-1: ARROW; Supplier Part Number-1: MC14512BDR2G
footprint SOIC16_50_284_25X90_SMT
pins: 1 X0, 2 X1, 3 X2, 4 X3, 5 X4, 6 X5, 7 X6, 8 VSS, 9 X7, 10 INH, 11 A, 12 B, 13 C, 14 Z, 15 DIS, 16 VDD

## IC_MCP4725A0T-E/CH
designator U?, comment MCP4725A0T-E/CH
12 Bit Digital to Analog Converter 1 SOT-23-6; Manufacturer: Microchip Technology; Alternate Part Number-1: NA; Manufacturer Part Number: MCP4725A0T-E/CH; Case/Package: SOT-23-6; Supplier-1: Digikey; Supplier Part Number-1: MCP4725A0T-E/CHCT-ND
footprint SOT23-6 (CASE: SOT)
pins: 1 VOUT, 2 VSS, 3 VDD, 4 SDA, 5 SCL, 6 A0

## IC_MCP4728T
designator U?, comment MCP4728T-E/UN
12 Bit Digital to Analog Converter 4 10-MSOP; Manufacturer: Microchip Technology; Alternate Part Number-1: NA; Manufacturer Part Number: MCP4728T-E/UN; Case/Package: 10-MSOP; Supplier-1: Arrow; Supplier Part Number-1: MCP4728T-E/UN
footprint MSOP-10_19.6_235_11.8X55X_SMD (IC)
pins: 1 VDD, 2 SCL, 3 SDA, 4 ~LDAC, 5 RDY/~BSY, 6 VOUT_A, 7 VOUT__B, 8 VOUT_C, 9 VOUT_D, 10 VSS

## IC_MCP9808T-E/MS
designator U?, comment MCP9808T-E/MS
Temperature Sensor Digital, Local -40°C ~ 125°C 10 b 8-MSOP; Manufacturer: Microchip; Alternate Part Number-1: NA; Manufacturer Part Number: MCP9808T-E/MS; Case/Package: MSOP8; Supplier-1: ARROW; Supplier Part Number-1: MCP9808T-E/MS
footprint MSOP-8_25.5_230_17.7X55_SMD (CASE:MSOP)
pins: 1 SDA, 2 SCL, 3 ALERT, 4 GND, 5 A2, 6 A1, 7 A0, 8 VDD

## IC_MCP73831T
designator *
footprint Microchip_C04-091-OT_IPC_A
pins: 1 STAT, 2 VSS (power), 3 VBAT (power), 4 VDD (oe), 5 PROG

## IC_MCP73831T-2ATI-OT_lipo_charger
designator U?
footprint SOT-23-MCP73831T-2ATI-OT-Lipo-charger
pins: 1 STAT, 2 VSS (power), 3 VBAT (power), 4 VDD (power), 5 PROG

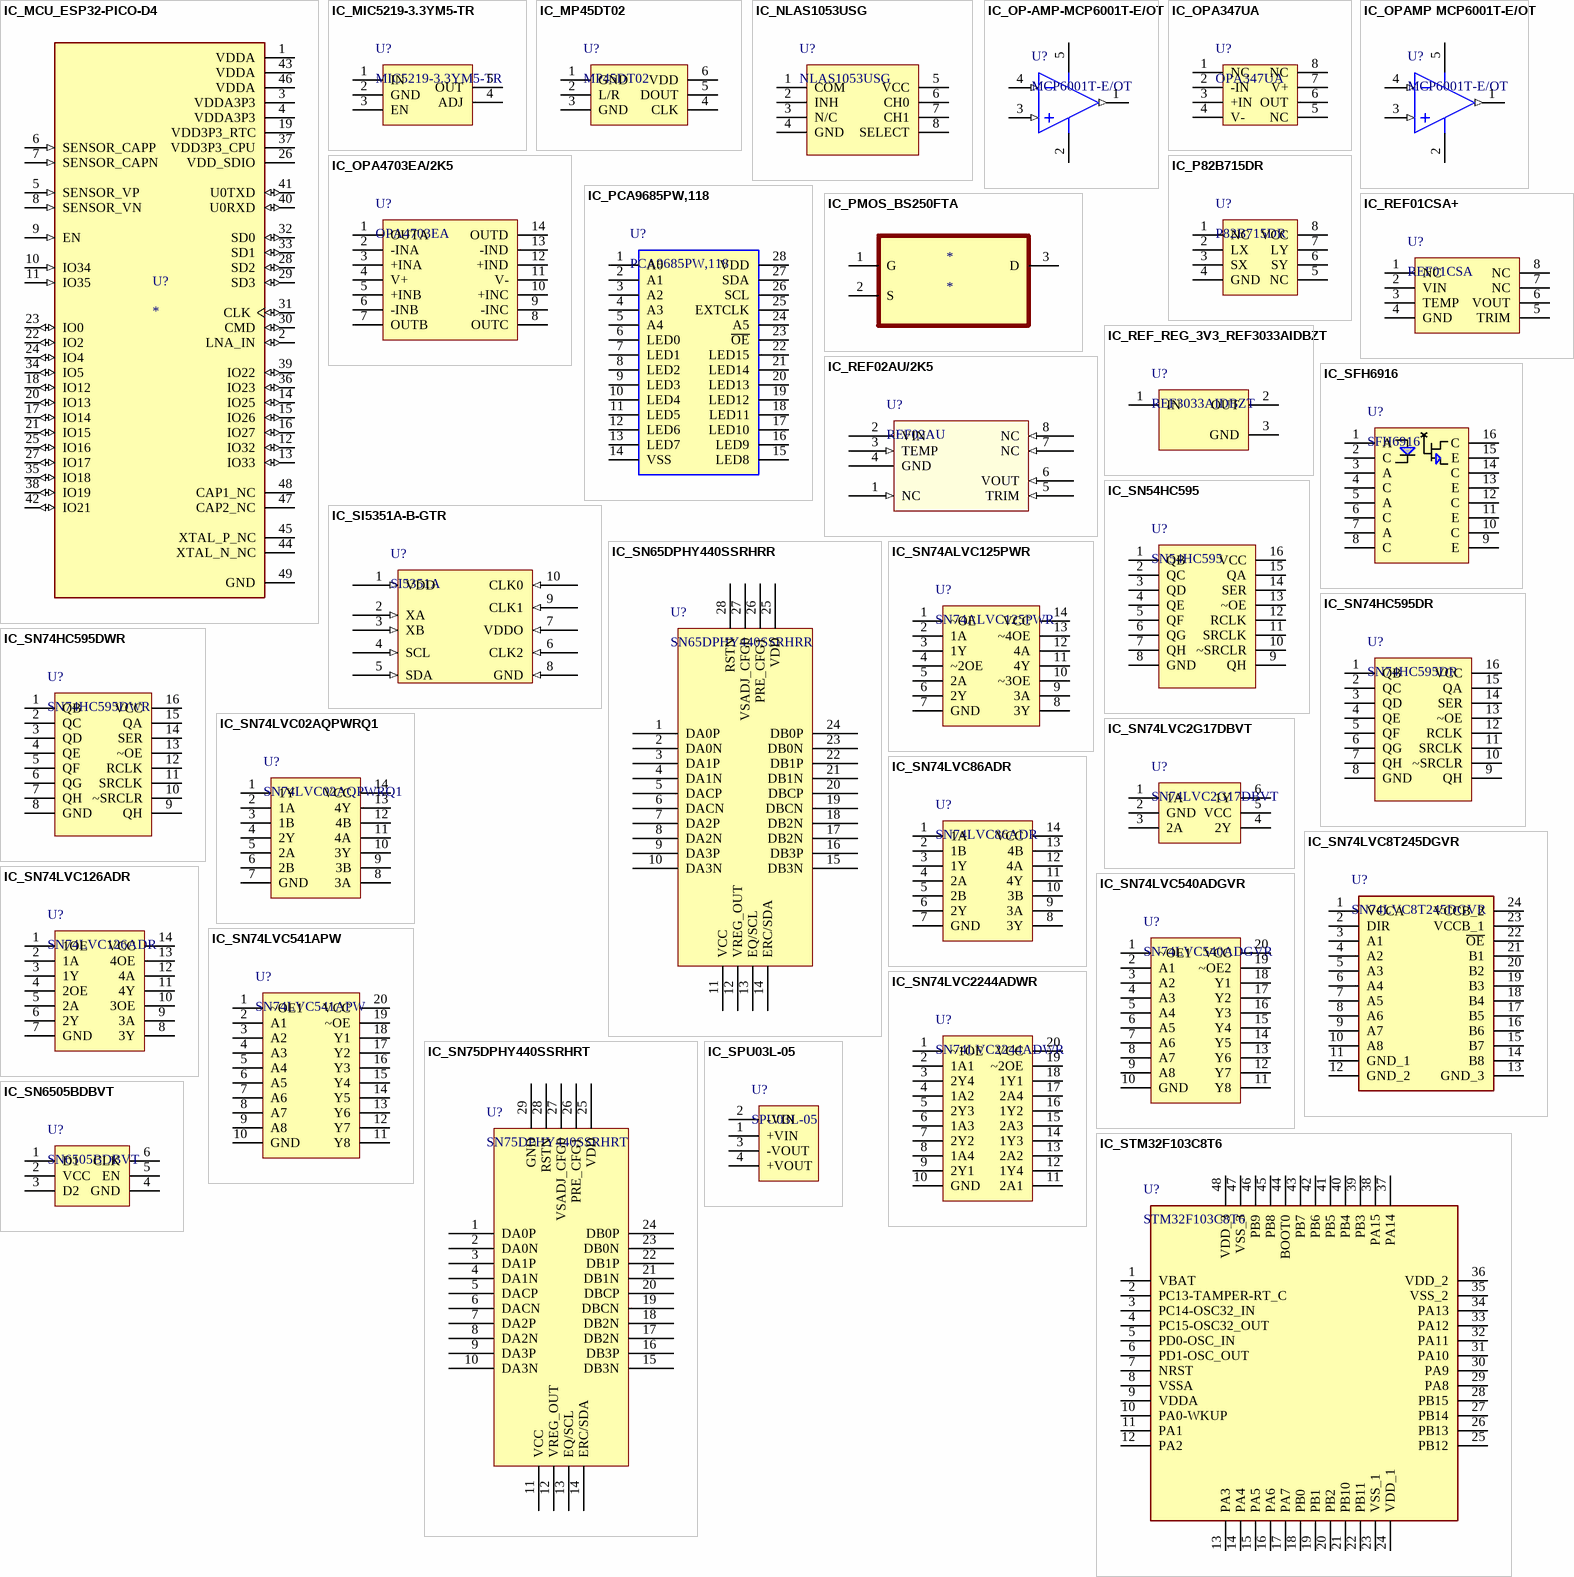
[diagram p9: symbols IC_MCU_ESP32-PICO-D4 to IC_STM32F103C8T6]

## IC_MCU_ESP32-PICO-D4
designator U?
Bluetooth, WiFi 802.11b/g/n, Bluetooth v4.2 +EDR, Class 1, 2 and 3 Transceiver Module 2.4GHz ~ 2.5GHz Surface Mount; MF: {'manufacturer': u'Espressif Systems'}; MP: ESP32-PICO-D4; Price: None; Value: *; Package: None; Availability: Unavailable
footprint ESP_PICO_D4_PQFN50P700X700X104-49N
pins: 1 VDDA (power), 2 LNA_IN (io), 3 VDDA3P3 (power), 4 VDDA3P3 (power), 5 SENSOR_VP (in), 6 SENSOR_CAPP (in), 7 SENSOR_CAPN (in), 8 SENSOR_VN (in), 9 EN (in), 10 IO34 (in), 11 IO35 (in), 12 IO32 (io), 13 IO33 (io), 14 IO25 (io), 15 IO26 (io), 16 IO27 (io), 17 IO14 (io), 18 IO12 (io), 19 VDD3P3_RTC (power), 20 IO13 (io), 21 IO15 (io), 22 IO2 (io), 23 IO0 (io), 24 IO4 (io), 25 IO16 (io), 26 VDD_SDIO (power), 27 IO17 (io), 28 SD2 (io), 29 SD3 (io), 30 CMD (io), 31 CLK (io), 32 SD0 (io), 33 SD1 (io), 34 IO5 (io), 35 IO18 (io), 36 IO23 (io), 37 VDD3P3_CPU (power), 38 IO19 (io), 39 IO22 (io), 40 U0RXD (io), 41 U0TXD (io), 42 IO21 (io), 43 VDDA (power), 44 XTAL_N_NC, 45 XTAL_P_NC, 46 VDDA (power), 47 CAP2_NC, 48 CAP1_NC, 49 GND (power)

## IC_MIC5219-3.3YM5-TR
designator U?, comment MIC5219-3.3YM5-TR
Linear Voltage Regulator IC 1 Output 500mA SOT-23-5; Manufacturer: Microchip Micrel; Alternate Part Number-1: NA; Manufacturer Part Number: MIC5219-3.3YM5-TR; Case/Package: SOT-23-5; Supplier-1: ARROW; Supplier Part Number-1: MIC5219-3.3YM5-TR
footprint SOT23-5
pins: 1 IN, 2 GND, 3 EN, 4 ADJ, 5 OUT

## IC_MP45DT02
designator U?, comment MP45DT02
pins: 1 GND, 2 L/R, 3 GND, 4 CLK, 5 DOUT, 6 VDD

## IC_NLAS1053USG
designator U?, comment NLAS1053USG
1 Circuit IC Switch 2:1 16Ohm US8; Manufacturer: ON Semiconductor; Alternate Part Number-1: NA; Manufacturer Part Number: NLAS1053USG; Case/Package: 8-VFSOP; Supplier-1: Arrow; Supplier Part Number-1: NLAS1053USG
footprint VSSOP-8_19.6_157_33X11_SMD (VSSOP)
pins: 1 COM, 2 INH, 3 N/C, 4 GND, 5 VCC, 6 CH0, 7 CH1, 8 SELECT

## IC_OP-AMP-MCP6001T-E/OT
designator U?, comment MCP6001T-E/OT
1 MHz, Low-Power Operational Amplifier, 5-Pin SOT-23, Extended Temperature, Tape and Reel; ComponentLink1Description: Manufacturer URL; ComponentLink2Description: Datasheet; ComponentLink3Description: Package Specification; ComponentLink3URL: http://www.microchip.com/stellent/groups/techpub_sg/documents/packagingspec/en012702.pdf; DatasheetVersion: revJ, Nov-2009; ComponentLink1URL: http://www.microchip.com/; RevisionNote: URLs added.; Code_IPC: SOT23-5; PackageVersion: revBB, Aug-2009; PackageDescription: 5-Lead Plastic Small Outline Transistor (OT) [SOT-23]; ComponentLink2URL: http://ww1.microchip.com/downloads/en/DeviceDoc/21733j.pdf; PackageReference: SOT-23-OT5; PartNumber: MCP6001T-E/OT
footprint MCP6001-SOT-23-OT5_N (SOT23, 5-Leads, Body 2.9x1.7mm, Pitch 0.95mm, Lead Span 2.8mm, IPC Medium Density)
pins: 1 VOUT (out), 2 VSS (power), 3 VIN+ (in), 4 VIN- (in), 5 VDD (power)

## IC_OPA347UA
designator U?, comment OPA347UA
General Purpose Amplifier 1 Circuit Rail-to-Rail 8-SOIC; Manufacturer: Texas Instruments; Alternate Part Number-1: NA; Manufacturer Part Number: OPA347UA; Case/Package: SOIC8; Supplier-1: MOUSER; Supplier Part Number-1: OPA347UA
footprint SOIC8_50_328_25X90_SMT (SOIC)
pins: 1 NC, 2 -IN, 3 +IN, 4 V-, 5 NC, 6 OUT, 7 V+, 8 NC

## IC_OPA4703EA/2K5
designator U?, comment OPA4703EA
General Purpose Amplifier 4 Circuit Rail-to-Rail 14-TSSOP; Manufacturer: Texas Instruments; Manufacturer Part Number: OPA4703EA/2K5; Alternate Part Number-1: NA; Case/Package: TSSOP14; Supplier-1: MOUSER; Supplier Part Number-1: OPA4703EA/2K5
footprint TSSOP14_25.6_296_15X55_SMD (CASE: TSSOP)
pins: 1 OUTA, 2 -INA, 3 +INA, 4 V+, 5 +INB, 6 -INB, 7 OUTB, 8 OUTC, 9 -INC, 10 +INC, 11 V-, 12 +IND, 13 -IND, 14 OUTD

## IC_OPAMP MCP6001T-E/OT
designator U?, comment MCP6001T-E/OT
1 MHz, Low-Power Operational Amplifier, 5-Pin SOT-23, Extended Temperature, Tape and Reel; ComponentLink1Description: Manufacturer URL; ComponentLink2Description: Datasheet; ComponentLink3Description: Package Specification; ComponentLink3URL: http://www.microchip.com/stellent/groups/techpub_sg/documents/packagingspec/en012702.pdf; DatasheetVersion: revJ, Nov-2009; ComponentLink1URL: http://www.microchip.com/; RevisionNote: URLs added.; Code_IPC: SOT23-5; PackageVersion: revBB, Aug-2009; PackageDescription: 5-Lead Plastic Small Outline Transistor (OT) [SOT-23]; ComponentLink2URL: http://ww1.microchip.com/downloads/en/DeviceDoc/21733j.pdf; PackageReference: SOT-23-OT5; PartNumber: MCP6001T-E/OT
footprint MCP_OP AMP (SOT23, 5-Leads, Body 2.9x1.7mm, Pitch 0.95mm, Lead Span 2.8mm, IPC High Density)
pins: 1 VOUT (out), 2 VSS (power), 3 VIN+ (in), 4 VIN- (in), 5 VDD (power)

## IC_P82B715DR
designator U?, comment P82B715DR
Buffer, ReDriver 1 Channel 8-SOIC; Manufacturer: Texas Instruments; Alternate Part Number-1: NA; Manufacturer Part Number: P82B715DR; Case/Package: SOIC8; Supplier-1: ARROW; Supplier Part Number-1: P82B715DR
footprint SOIC8_50_328_25X90_SMT (SOIC)
pins: 1 NC, 2 LX, 3 SX, 4 GND, 5 NC, 6 SY, 7 LY, 8 VCC

## IC_PCA9685PW,118
designator U?, comment PCA9685PW,118
LED Driver IC 16 Output Linear PWM Dimming 25mA 28-TSSOP; Manufacturer: NXP Semiconductors; Alternate Part Number-1: NA; Manufacturer Part Number: PCA9685PW,118; Case/Package: TSSOP28; Supplier-1: ARROW; Supplier Part Number-1: PCA9685PW,118
footprint TSSOP28_25.5_295_15X58_SMD (CASE: TSSOP)
pins: 1 A0, 2 A1, 3 A2, 4 A3, 5 A4, 6 LED0, 7 LED1, 8 LED2, 9 LED3, 10 LED4, 11 LED5, 12 LED6, 13 LED7, 14 VSS, 15 LED8, 16 LED9, 17 LED10, 18 LED11, 19 LED12, 20 LED13, 21 LED14, 22 LED15, 23 ~{OE}, 24 A5, 25 EXTCLK, 26 SCL, 27 SDA, 28 VDD

## IC_PMOS_BS250FTA
designator *
footprint BS250FTA
pins: 1 G, 2 S, 3 D

## IC_REF01CSA+
designator U?, comment REF01CSA
Series Voltage Reference IC ±1% 8-SOIC; Manufacturer: Maxim; Manufacturer Part Number: REF01CSA+; Alternate Part Number-1: NA; Case/Package: SOIC8; Supplier-1: RS COMP; Supplier Part Number-1: REF01CSA+
footprint SOIC8_50_328_25X90_SMT (SOIC)
pins: 1 NC, 2 VIN, 3 TEMP, 4 GND, 5 TRIM, 6 VOUT, 7 NC, 8 NC

## IC_REF02AU/2K5
designator U?, comment REF02AU
Series Voltage Reference IC ±0.3% 8-SOIC; Manufacturer: Texas Instruments; Manufacturer Part Number: REF02AU/2K5; Alternate Part Number-1: NA; Case/Package: SOIC8; Supplier-1: ARROW; Supplier Part Number-1: REF02AU/2K5
footprint SOIC8_50_328_25X90_SMT (SOIC)
pins: 1 NC (in), 2 VIN (power), 3 TEMP (in), 4 GND (power), 5 TRIM (in), 6 VOUT (in), 7 NC (in), 8 NC (in)

## IC_REF_REG_3V3_REF3033AIDBZT
designator U?, comment REF3033AIDBZT
3.3 V, 50 ppm / degC, 50 uA Series (Bandgap) Voltage Reference, -40 to 125 degC, 3-pin SOT-23 (DBZ), Green (RoHS & no Sb/Br); Manufacturer: Texas Instruments; Initial Accuracy @ 25/deg C(%): 0.2; VI(Max)(V): 5.5; SubFamily: Series Voltage Reference; VI(Min)(V): 3.301; Iq(Max)(uA): 50; VO(V): 3.3; Rating: Catalog; Temp Coeff(Typ)(ppm/ degree C): 20; Eco-Plan: Green (RoHS & no Sb/Br); PartNumber: REF3033AIDBZT; ComponentLink1Description: Manufacturer URL; ComponentLink2Description: Datasheet; DatasheetVersion: SBVS032F; ComponentLink3URL: http://www.ti.com/litv/pdf/mpds108a; ComponentLink1URL: http://www.ti.com/; Code_JEDEC: TO-236; ComponentLink2URL: http://www.ti.com/general/docs/lit/getliterature.tsp?genericPartNumber=REF3033&fileType=pdf; PackageReference: DBZ3; ComponentLink3Description: Package Specification; PackageVersion: 4203227/B; Temp Coeff(Max)(ppm/ degree C): 50; Mounting Technology: Surface Mount; PackageDescription: 3-Pin Plastic Small Outline, Body 2.92 x 1.3 mm, Pitch 0.95 mm
footprint TI-DBZ3_N (SOT23, 3-Leads, Body 2.92x1.3 mm, Pitch 0.95 mm, IPC Medium Density)
pins: 1 IN (power), 2 OUT (power), 3 GND (power)

## IC_SFH6916
designator U?, comment SFH6916
Optoisolator Transistor Output 3750Vrms 4 Channel 16-SOP; Manufacturer: Vishay Semiconductors; Alternate Part Number-1: NA; Manufacturer Part Number: SFH6916; Case/Package: SOIC16; Supplier-1: ARROW; Supplier Part Number-1: SFH6916
footprint SOIC16_50_284_25X90_SMT
pins: 1 A, 2 C, 3 A, 4 C, 5 A, 6 C, 7 A, 8 C, 9 E, 10 C, 11 E, 12 C, 13 E, 14 C, 15 E, 16 C

## IC_SI5351A-B-GTR
designator U?, comment SI5351A
Clock Generators & Support Products I2C Prog, Any Frequency, Any Output, Xtal Ref, 3-Output LVCMOS Clock Gen; Manufacturer: Silicon Labs; Manufacturer Part Number: SI5351A-B-GTR; Alternate Part Number-1: NA; Case/Package: SSOP10; Supplier-1: ARROW; Supplier Part Number-1: SI5351A-B-GTR
footprint SSOP10_19_236_55X11_SMD
pins: 1 VDD (in), 2 XA (in), 3 XB (in), 4 SCL (in), 5 SDA (in), 6 CLK2 (in), 7 VDDO (in), 8 GND (in), 9 CLK1 (in), 10 CLK0 (in)

## IC_SN54HC595
designator U?, comment SN54HC595
Parallel-out shift register IC_SN54HC595 The SNx4HC595 devices contain an 8-bit, serial-in, / 1• 8-Bit Serial-In; Manufacturer: Texas Instruments; Alternate Part Number-1: NA; Manufacturer Part Number: SN54HC595; Case/Package: TSSOP16; Supplier-1: ARROW; Supplier Part Number-1: SN54HC595
footprint TSSOP16_25-59_294_54X14_SMT (TSOP, 16-Leads, Body 5.00x4.40mm, Pitch 0.65mm)
pins: 1 QB, 2 QC, 3 QD, 4 QE, 5 QF, 6 QG, 7 QH, 8 GND, 9 QH, 10 ~SRCLR, 11 SRCLK, 12 RCLK, 13 ~OE, 14 SER, 15 QA, 16 VCC

## IC_SN65DPHY440SSRHRR
designator U?, comment SN65DPHY440SSRHRR
Video IC 28-WQFN (5.5x3.5) Package; Manufacturer: Texas Instruments; Alternate Part Number-1: NA; Manufacturer Part Number: SN65DPHY440SSRHRR; Case/Package: 28-WQFN; Supplier-1: Digikey; Supplier Part Number-1: 296-44524-1-ND
footprint WQFN-28_19.7_186_33.8X10_SMD (WQFN Package)
pins: 1 DA0P, 2 DA0N, 3 DA1P, 4 DA1N, 5 DACP, 6 DACN, 7 DA2P, 8 DA2N, 9 DA3P, 10 DA3N, 11 VCC, 12 VREG_OUT, 13 EQ/SCL, 14 ERC/SDA, 15 DB3N, 16 DB3P, 17 DB2N, 18 DB2N, 19 DBCN, 20 DBCP, 21 DB1N, 22 DB1P, 23 DB0N, 24 DB0P, 25 VDD, 26 PRE_CFG1, 27 VSADJ_CFG0, 28 RSTN

## IC_SN74ALVC125PWR
designator U?, comment SN74ALVC125PWR
Buffer, Non-Inverting 4 Element 1 Bit per Element 3-State Output 14-TSSOP; Manufacturer: Texas Instruments; Alternate Part Number-1: NA; Manufacturer Part Number: SN74ALVC125PWR; Case/Package: TSSOP14; Supplier-1: ARROW; Supplier Part Number-1: SN74ALVC125PWR
footprint TSSOP14_25.6_296_15X55_SMD (CASE: TSSOP)
pins: 1 ~OE, 2 1A, 3 1Y, 4 ~2OE, 5 2A, 6 2Y, 7 GND, 8 3Y, 9 3A, 10 ~3OE, 11 4Y, 12 4A, 13 ~4OE, 14 VCC

## IC_SN74HC595DR
designator U?, comment SN74HC595DR
Shift Shift Register 1 Element 8 Bit 16-SOIC; Manufacturer: TI; Alternate Part Number-1: NA; Manufacturer Part Number: SN74HC595DR; Case/Package: 16-SOIC; Supplier-1: Digikey; Supplier Part Number-1: 296-14857-1-ND
footprint SOIC16_50_284_25X90_SMT
pins: 1 QB, 2 QC, 3 QD, 4 QE, 5 QF, 6 QG, 7 QH, 8 GND, 9 QH, 10 ~SRCLR, 11 SRCLK, 12 RCLK, 13 ~OE, 14 SER, 15 QA, 16 VCC

## IC_SN74HC595DWR
designator U?, comment SN74HC595DWR
Shift Shift Register 1 Element 8 Bit 16-SOIC; Manufacturer: Texas Instruments; Alternate Part Number-1: NA; Manufacturer Part Number: SN74HC595DWR; Case/Package: SOICW-16; Supplier-1: ARROW; Supplier Part Number-1: SN74HC595DWR
footprint SOICW16_50_440_25X76_SMT (SOICW)
pins: 1 QB, 2 QC, 3 QD, 4 QE, 5 QF, 6 QG, 7 QH, 8 GND, 9 QH, 10 ~SRCLR, 11 SRCLK, 12 RCLK, 13 ~OE, 14 SER, 15 QA, 16 VCC

## IC_SN74LVC02AQPWRQ1
designator U?, comment SN74LVC02AQPWRQ1
NOR Gate IC 4 Channel 14-TSSOP; Manufacturer: Texas Instruments; Alternate Part Number-1: NA; Manufacturer Part Number: SN74LVC02AQPWRQ1; Case/Package: TSSOP-14; Supplier-1: Arrow; Supplier Part Number-1: SN74LVC02AQPWRQ1
footprint TSSOP14_25.6_296_15X55_SMD (CASE: TSSOP)
pins: 1 1Y, 2 1A, 3 1B, 4 2Y, 5 2A, 6 2B, 7 GND, 8 3A, 9 3B, 10 3Y, 11 4A, 12 4B, 13 4Y, 14 VCC

## IC_SN74LVC2G17DBVT
designator U?, comment SN74LVC2G17DBVT
Buffer, Non-Inverting 2 Element 1 Bit per Element Push-Pull Output SOT-23-6; Manufacturer: Texas Instruments; Alternate Part Number-1: NA; Manufacturer Part Number: SN74LVC2G17DBVT; Case/Package: SOT23-6; Supplier-1: ARROW; Supplier Part Number-1: SN74LVC2G17DBVT
footprint SOT23-6
pins: 1 1A, 2 GND, 3 2A, 4 2Y, 5 VCC, 6 1Y

## IC_SN74LVC8T245DGVR
designator U?, comment SN74LVC8T245DGVR
Voltage Level Translator Bidirectional 1 Circuit 8 Channel 24-TVSOP; Manufacturer: Texas Instruments; Alternate Part Number-1: NA; Manufacturer Part Number: SN74LVC8T245DGVR; Case/Package: 24TVSOP; Supplier-1: ARROW; Supplier Part Number-1: SN74LVC8T245DGVR
footprint TVSOP-24_15.7_290_58x7.7_smd (IC TRNSLTR BIDIRECTIONAL 24TVSOP)
pins: 1 VCCA, 2 DIR, 3 A1, 4 A2, 5 A3, 6 A4, 7 A5, 8 A6, 9 A7, 10 A8, 11 GND_1, 12 GND_2, 13 GND_3, 14 B8, 15 B7, 16 B6, 17 B5, 18 B4, 19 B3, 20 B2, 21 B1, 22 ~{OE}, 23 VCCB_1, 24 VCCB_2

## IC_SN74LVC86ADR
designator U?, comment SN74LVC86ADR
XOR (Exclusive OR) IC 4 Channel 14-SOIC; Manufacturer: Texas Instruments; Alternate Part Number-1: NA; Manufacturer Part Number: SN74LVC86ADR; Case/Package: 14-SOIC; Supplier-1: Arrow; Supplier Part Number-1: SN74LVC86ADR
footprint SOIC14_50_285_80X25_SMT (SOIC, 14-Leads, Body 8.56x3.90mm, Pitch 1.27mm, IPC Medium Density)
pins: 1 1A, 2 1B, 3 1Y, 4 2A, 5 2B, 6 2Y, 7 GND, 8 3Y, 9 3A, 10 3B, 11 4Y, 12 4A, 13 4B, 14 VCC

## IC_SN74LVC126ADR
designator U?, comment SN74LVC126ADR
Buffer, Non-Inverting 4 Element 1 Bit per Element 3-State Output 14-SOIC; Manufacturer: Texas Instruments; Alternate Part Number-1: NA; Manufacturer Part Number: SN74LVC126ADR; Case/Package: SOIC-14; Supplier-1: Arrow; Supplier Part Number-1: SN74LVC126ADR
footprint SOIC14_50_285_80X25_SMT (SOIC, 14-Leads, Body 8.56x3.90mm, Pitch 1.27mm, IPC Medium Density)
pins: 1 1OE, 2 1A, 3 1Y, 4 2OE, 5 2A, 6 2Y, 7 GND, 8 3Y, 9 3A, 10 3OE, 11 4Y, 12 4A, 13 4OE, 14 VCC

## IC_SN74LVC540ADGVR
designator U?, comment SN74LVC540ADGVR
Buffer, Inverting 1 Element 8 Bit per Element 3-State Output 20-TVSOP; Manufacturer: Texas Instruments; Alternate Part Number-1: NA; Manufacturer Part Number: SN74LVC540ADGVR; Case/Package: TVSOP-20; Supplier-1: Arrow; Supplier Part Number-1: SN74LVC540ADGVR
footprint TVSOP20_15.74_303_9x82.6_SMD (TVSOP Package)
pins: 1 ~OE1, 2 A1, 3 A2, 4 A3, 5 A4, 6 A5, 7 A6, 8 A7, 9 A8, 10 GND, 11 Y8, 12 Y7, 13 Y6, 14 Y5, 15 Y4, 16 Y3, 17 Y2, 18 Y1, 19 ~OE2, 20 VCC

## IC_SN74LVC541APW
designator U?, comment SN74LVC541APW
Buffer/Line Driver 8-CH Non-Inverting 3-ST CMOS 20-Pin TSSOP Tube; Manufacturer: Texas Instruments; Alternate Part Number-1: NA; Manufacturer Part Number: SN74LVC541APW; Case/Package: TSSOP-20; Supplier-1: Arrow; Supplier Part Number-1: SN74LVC541APW
footprint TSSOP20_25-59_292_12X65_SMT
pins: 1 ~OE1, 2 A1, 3 A2, 4 A3, 5 A4, 6 A5, 7 A6, 8 A7, 9 A8, 10 GND, 11 Y8, 12 Y7, 13 Y6, 14 Y5, 15 Y4, 16 Y3, 17 Y2, 18 Y1, 19 ~OE, 20 VCC

## IC_SN74LVC2244ADWR
designator U?, comment SN74LVC2244ADWR
Buffer, Non-Inverting 2 Element 4 Bit per Element 3-State Output 20-SOIC; Manufacturer: Texas Instruments; Alternate Part Number-1: NA; Manufacturer Part Number: SN74LVC2244ADWR; Case/Package: SOIC-20; Supplier-1: Digikey; Supplier Part Number-1: 296-8490-1-ND
footprint SOIC20_50_284_25X90_SMT
pins: 1 ~1OE, 2 1A1, 3 2Y4, 4 1A2, 5 2Y3, 6 1A3, 7 2Y2, 8 1A4, 9 2Y1, 10 GND, 11 2A1, 12 1Y4, 13 2A2, 14 1Y3, 15 2A3, 16 1Y2, 17 2A4, 18 1Y1, 19 ~2OE, 20 VCC

## IC_SN75DPHY440SSRHRT
designator U?, comment SN75DPHY440SSRHRT
Video IC 28-WQFN (5.5x3.5) Package; Manufacturer: Texas Instruments; Alternate Part Number-1: NA; Manufacturer Part Number: SN75DPHY440SSRHRT; Case/Package: 28-WQFN; Supplier-1: Digikey; Supplier Part Number-1: 296-44524-1-ND
footprint WQFN-28_19.7_186_33.8X10_SMD (WQFN Package)
pins: 1 DA0P, 2 DA0N, 3 DA1P, 4 DA1N, 5 DACP, 6 DACN, 7 DA2P, 8 DA2N, 9 DA3P, 10 DA3N, 11 VCC, 12 VREG_OUT, 13 EQ/SCL, 14 ERC/SDA, 15 DB3N, 16 DB3P, 17 DB2N, 18 DB2N, 19 DBCN, 20 DBCP, 21 DB1N, 22 DB1P, 23 DB0N, 24 DB0P, 25 VDD, 26 PRE_CFG1, 27 VSADJ_CFG0, 28 RSTN, 29 GND

## IC_SN6505BDBVT
designator U?, comment SN6505BDBVT
Transformer Driver PMIC SOT-23-6; Manufacturer: Texas Instruments; Alternate Part Number-1: NA; Manufacturer Part Number: SN6505BDBVT; Case/Package: SOT23-6; Supplier-1: ARROW; Supplier Part Number-1: SN6505BDBVT
footprint SOT23-6 (CASE: SOT)
pins: 1 D1, 2 VCC, 3 D2, 4 GND, 5 EN, 6 CLK

## IC_SPU03L-05
designator U?, comment SPU03L-05
Isolated Module DC DC Converter 1 Output 5V 600mA 4.5V - 5.5V Input; Manufacturer: Mean Well; Alternate Part Number-1: NA; Manufacturer Part Number: SPU03L-05; Case/Package: SPU03L-TH; Supplier-1: ARROW; Supplier Part Number-1: SPU03L-05
footprint SPU03L-05_100_787_35D70_TH (SPU03)
pins: 1 +VIN, 2 -VIN, 3 -VOUT, 4 +VOUT

## IC_STM32F103C8T6
designator U?, comment STM32F103C8T6
ARM® Cortex®-M3 STM32F1 Microcontroller IC 32-Bit 72MHz 64KB (64K x 8) FLASH 48-LQFP (7x7); Manufacturer: STMicroelectronics; Alternate Part Number-1: NA; Manufacturer Part Number: STM32F103C8T6; Case/Package: LQFP48; Supplier-1: LCSC; Supplier Part Number-1: STM32F103C8T6
footprint LQFP-48_19.6_393_58X11_SMD (48LQFP)
pins: 1 VBAT, 2 PC13-TAMPER-RT_C, 3 PC14-OSC32_IN, 4 PC15-OSC32_OUT, 5 PD0-OSC_IN, 6 PD1-OSC_OUT, 7 NRST, 8 VSSA, 9 VDDA, 10 PA0-WKUP, 11 PA1, 12 PA2, 13 PA3, 14 PA4, 15 PA5, 16 PA6, 17 PA7, 18 PB0, 19 PB1, 20 PB2, 21 PB10, 22 PB11, 23 VSS_1, 24 VDD_1, 25 PB12, 26 PB13, 27 PB14, 28 PB15, 29 PA8, 30 PA9, 31 PA10, 32 PA11, 33 PA12, 34 PA13, 35 VSS_2, 36 VDD_2, 37 PA14, 38 PA15, 39 PB3, 40 PB4, 41 PB5, 42 PB6, 43 PB7, 44 BOOT0, 45 PB8, 46 PB9, 47 VSS_3, 48 VDD_3

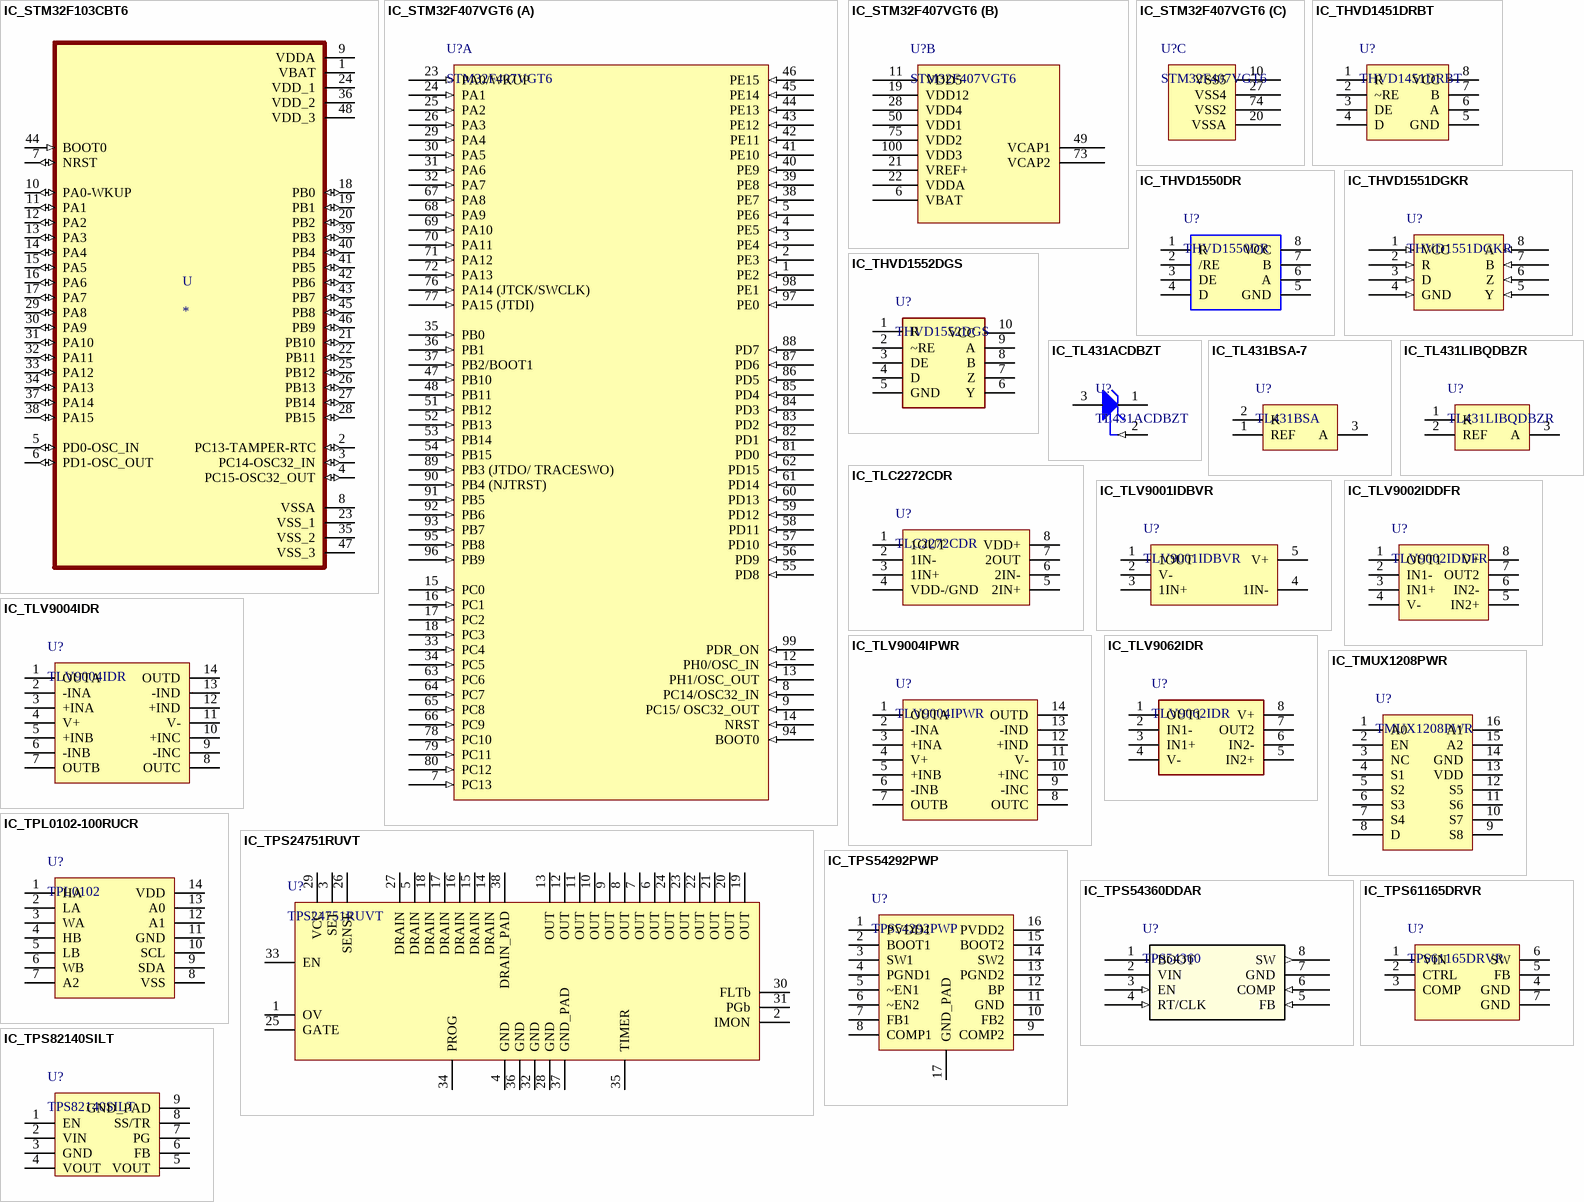
[diagram p10: symbols IC_STM32F103CBT6 to IC_TPS82140SILT]

## IC_STM32F103CBT6
designator U
ARMÂ® CortexÂ®-M3 STM32F1 Microcontroller IC 32-Bit 72MHz 128KB _128K x 8_ FLASH; MP: STM32F103CBT6; MF: STMicroelectronics; Package: LQFP-48 STMicroelectronics; Availability: Unavailable; Value: *; SnapEDA_Link: https://www.snapeda.com/parts/STM32F103CBT6/STMicroelectronics/view-part/38865/?ref=snap; Price: None
footprint STM32F103CBT6-QFP50P900X900X160-48N
pins: 1 VBAT (power), 2 PC13-TAMPER-RTC (io), 3 PC14-OSC32_IN (io), 4 PC15-OSC32_OUT (io), 5 PD0-OSC_IN (io), 6 PD1-OSC_OUT (io), 7 NRST (io), 8 VSSA (power), 9 VDDA (power), 10 PA0-WKUP (io), 11 PA1 (io), 12 PA2 (io), 13 PA3 (io), 14 PA4 (io), 15 PA5 (io), 16 PA6 (io), 17 PA7 (io), 18 PB0 (io), 19 PB1 (io), 20 PB2 (io), 21 PB10 (io), 22 PB11 (io), 23 VSS_1 (power), 24 VDD_1 (power), 25 PB12 (io), 26 PB13 (io), 27 PB14 (io), 28 PB15 (io), 29 PA8 (io), 30 PA9 (io), 31 PA10 (io), 32 PA11 (io), 33 PA12 (io), 34 PA13 (io), 35 VSS_2 (power), 36 VDD_2 (power), 37 PA14 (io), 38 PA15 (io), 39 PB3 (io), 40 PB4 (io), 41 PB5 (io), 42 PB6 (io), 43 PB7 (io), 44 BOOT0 (in), 45 PB8 (io), 46 PB9 (io), 47 VSS_3 (power), 48 VDD_3 (power)

## IC_STM32F407VGT6
designator U?, comment STM32F407VGT6
ARM® Cortex®-M4 STM32F4 Microcontroller IC 32-Bit 168MHz 1MB (1M x 8) FLASH 100-LQFP (14x14); Manufacturer: STMicroelectronics; Alternate Part Number-1: STM32F407VET6; Manufacturer Part Number: STM32F407VGT6; Case/Package: LQFP100; Supplier-1: ARROW; Supplier Part Number-1: STM32F407VGT6
footprint QFN100_19.6_669_58X10_SMD (CASE: QFN)
part A pins: 1 PE2 (in), 2 PE3 (in), 3 PE4 (in), 4 PE5 (in), 5 PE6 (in), 7 PC13 (in), 8 PC14/OSC32_IN (in), 9 PC15/ OSC32_OUT (in), 12 PH0/OSC_IN (in), 13 PH1/OSC_OUT (in), 14 NRST (in), 15 PC0 (in), 16 PC1 (in), 17 PC2 (in), 18 PC3 (in), 23 PA0/WKUP (in), 24 PA1 (in), 25 PA2 (in), 26 PA3 (in), 29 PA4 (in), 30 PA5 (in), 31 PA6 (in), 32 PA7 (in), 33 PC4 (in), 34 PC5 (in), 35 PB0 (in), 36 PB1 (in), 37 PB2/BOOT1 (in), 38 PE7 (in), 39 PE8 (in), 40 PE9 (in), 41 PE10 (in), 42 PE11 (in), 43 PE12 (in), 44 PE13 (in), 45 PE14 (in), 46 PE15 (in), 47 PB10 (in), 48 PB11 (in), 51 PB12 (in), 52 PB13 (in), 53 PB14 (in), 54 PB15 (in), 55 PD8 (in), 56 PD9 (in), 57 PD10 (in), 58 PD11 (in), 59 PD12 (in), 60 PD13 (in), 61 PD14 (in), 62 PD15 (in), 63 PC6 (in), 64 PC7 (in), 65 PC8 (in), 66 PC9 (in), 67 PA8 (in), 68 PA9 (in), 69 PA10 (in), 70 PA11 (in), 71 PA12 (in), 72 PA13 (in), 76 PA14 (JTCK/SWCLK) (in), 77 PA15 (JTDI) (in), 78 PC10 (in), 79 PC11 (in), 80 PC12 (in), 81 PD0 (in), 82 PD1 (in), 83 PD2 (in), 84 PD3 (in), 85 PD4 (in), 86 PD5 (in), 87 PD6 (in), 88 PD7 (in), 89 PB3 (JTDO/ TRACESWO) (in), 90 PB4 (NJTRST) (in), 91 PB5 (in), 92 PB6 (in), 93 PB7 (in), 94 BOOT0 (in), 95 PB8 (in), 96 PB9 (in), 97 PE0 (in), 98 PE1 (in), 99 PDR_ON (in)
part B pins: 6 VBAT, 11 VDD5, 19 VDD12, 21 VREF+, 22 VDDA, 28 VDD4, 49 VCAP1, 50 VDD1, 73 VCAP2, 75 VDD2, 100 VDD3
part C pins: 10 VSS5, 20 VSSA, 27 VSS4, 74 VSS2

## IC_THVD1451DRBT
designator U?, comment THVD1451DRBT
1/1 Transceiver Full RS485 8-VSON (3x3); Manufacturer: Texas Instruments; Alternate Part Number-1: NA; Manufacturer Part Number: THVD1451DRBT; Case/Package: 8-SOIC; Supplier-1: Mouser; Supplier Part Number-1: 595-THVD1451DRBR
footprint SOIC8_50_328_25X90_SMT (SOIC)
pins: 1 R, 2 ~RE, 3 DE, 4 D, 5 GND, 6 A, 7 B, 8 VCC

## IC_THVD1550DR
designator U?, comment THVD1550DR
1/1 Transceiver Half RS485 8-SOIC; Manufacturer: Texas Instruments; Alternate Part Number-1: NA; Manufacturer Part Number: THVD1550DR; Case/Package: SOIC8; Supplier-1: MOUSER; Supplier Part Number-1: THVD1550DR
footprint SOIC8_50_328_25X90_SMT (SOIC)
pins: 1 R, 2 /RE, 3 DE, 4 D, 5 GND, 6 A, 7 B, 8 VCC

## IC_THVD1551DGKR
designator U?, comment THVD1551DGKR
1/1 Transceiver Full RS485 8-VSSOP; Manufacturer: Texas Instruments; Alternate Part Number-1: NA; Manufacturer Part Number: THVD1551DGKR; Case/Package: SOIC8; Supplier-1: MOUSER; Supplier Part Number-1: THVD1551DGKR
footprint SOIC8_50_328_25X90_SMT (SOIC)
pins: 1 VCC (in), 2 R (in), 3 D (in), 4 GND (in), 5 Y (in), 6 Z (in), 7 B (in), 8 A (in)

## IC_THVD1552DGS
designator U?, comment THVD1552DGS
1/1 Transceiver Full RS485 10-VSSOP; Manufacturer: Texas Instruments; Alternate Part Number-1: NA; Manufacturer Part Number: THVD1552DGS; Case/Package: SSOP10; Supplier-1: MOUSER; Supplier Part Number-1: THVD1552DGS
footprint SSOP10_19_236_55X11_SMD (CASE: SSOP)
pins: 1 R, 2 ~RE, 3 DE, 4 D, 5 GND, 6 Y, 7 Z, 8 B, 9 A, 10 VCC

## IC_TL431ACDBZT
designator U?, comment TL431ACDBZT
Shunt Voltage Reference IC 36V ±1% SOT-23-3; Manufacturer: Texas Instruments; Alternate Part Number-1: NA; Manufacturer Part Number: TL431ACDBZT; Case/Package: SOT-23; Supplier-1: Mouser; Supplier Part Number-1: 595-TL431ACDBZT
footprint SOT 23-3 (Case: SOT23)
pins: 1 CATHODE, 2 REF (in), 3 ANODE

## IC_TL431BSA-7
designator U?, comment TL431BSA
Shunt Voltage Reference IC 36V ±0.5% SOT-23-3; Manufacturer: Diodes; Manufacturer Part Number: TL431BSA-7; Alternate Part Number-1: NA; Case/Package: SOT-23; Supplier-1: Mouser; Supplier Part Number-1: 621-TL431BSA-7
footprint SOT 23-3
pins: 1 REF, 2 K, 3 A